# Altium integrated library Xilinx PLD XC9500XL.IntLib: 169 symbols (part 9 of 11)
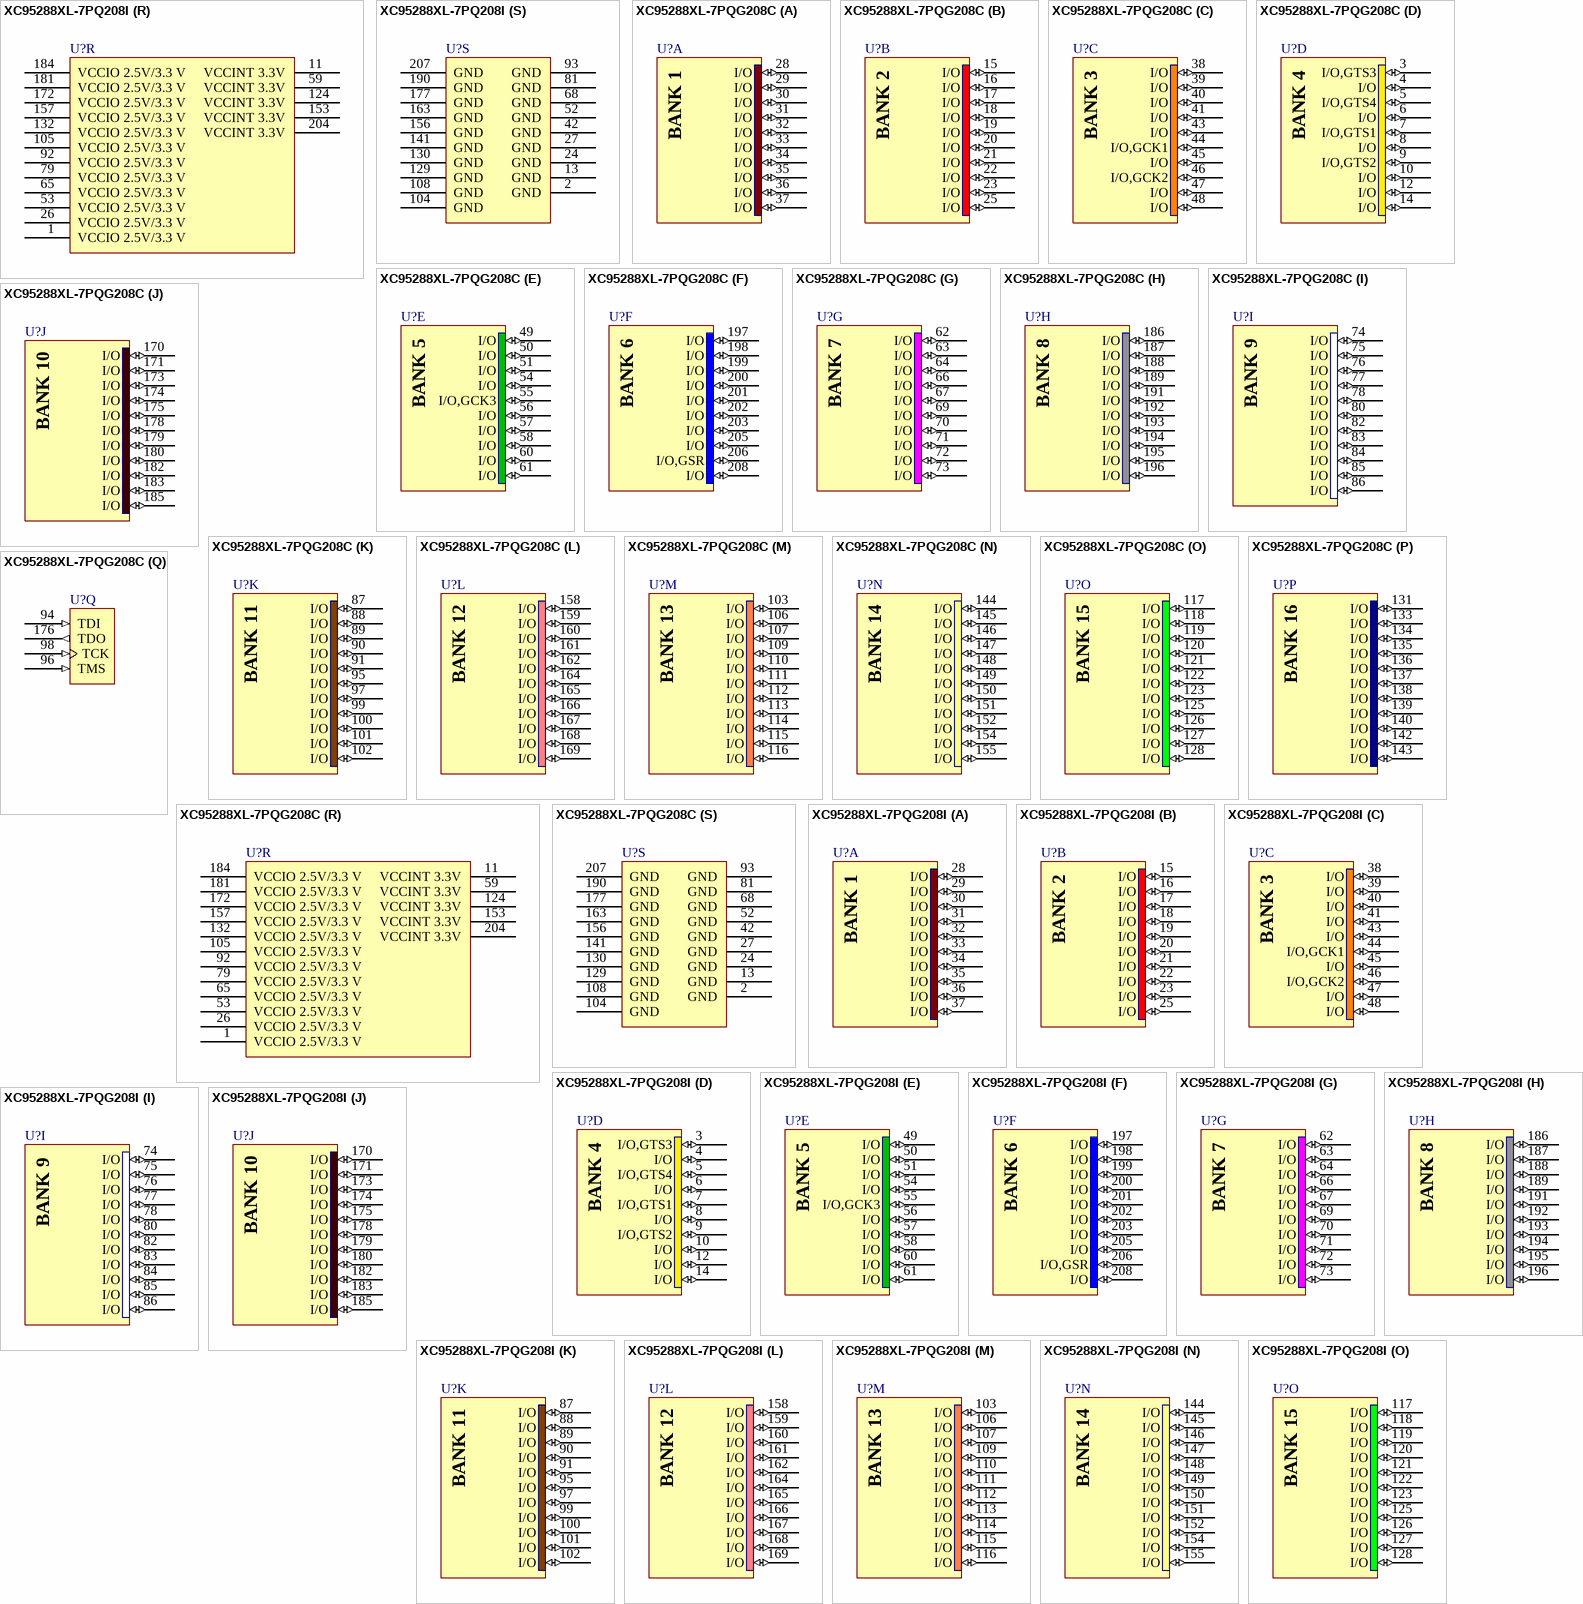
[diagram p66: symbols XC95288XL-7PQ208I to XC95288XL-7PQG208I]

## XC95288XL-7PQG208C
designator U?
FastFLASH XC900XL, 3.3V High-Performance 288 Macrocell CPLD, 168 User I/Os, 208-Pin PQFP, Speed Grade 7, Commercial Grade, Pb-Free; DatasheetVersion: ver2.1, Apr-2007; PackageVersion: ver1.2, Jun-2004; PackageReference: PQG208; PackageDescription: 208-Pin Plastic Quad Flat Pack (PQG208) - Pb-Free; Code_JEDEC: MS-029-FA-1; ComponentLink1Description: Manufacturer URL; ComponentLink1URL: http://www.xilinx.com/; ComponentLink2Description: XC95288XL Datasheet; ComponentLink2URL: http://www.xilinx.com/support/documentation/data_sheets/ds055.pdf; ComponentLink3Description: PQG208 Package Drawing; ComponentLink3URL: http://www.xilinx.com/support/documentation/package_specs/pq208.pdf; ComponentLink4Description: XC9500XL Documents; ComponentLink4URL: http://www.xilinx.com/support/documentation/xc9500xl.htm
footprint PQG208_N (Shrink QFP, 208-Leads, Body 28x28mm, Pitch 0.5mm, IPC Medium Density)
footprint PQG208_L (Shrink QFP, 208-Leads, Body 28x28mm, Pitch 0.5mm, IPC High Density)
footprint PQG208_M (Shrink QFP, 208-Leads, Body 28x28mm, Pitch 0.5mm, IPC Low Density)
part A pins: 28 I/O (io), 29 I/O (io), 30 I/O (io), 31 I/O (io), 32 I/O (io), 33 I/O (io), 34 I/O (io), 35 I/O (io), 36 I/O (io), 37 I/O (io)
part B pins: 15 I/O (io), 16 I/O (io), 17 I/O (io), 18 I/O (io), 19 I/O (io), 20 I/O (io), 21 I/O (io), 22 I/O (io), 23 I/O (io), 25 I/O (io)
part C pins: 38 I/O (io), 39 I/O (io), 40 I/O (io), 41 I/O (io), 43 I/O (io), 44 I/O,GCK1 (io), 45 I/O (io), 46 I/O,GCK2 (io), 47 I/O (io), 48 I/O (io)
part D pins: 3 I/O,GTS3 (io), 4 I/O (io), 5 I/O,GTS4 (io), 6 I/O (io), 7 I/O,GTS1 (io), 8 I/O (io), 9 I/O,GTS2 (io), 10 I/O (io), 12 I/O (io), 14 I/O (io)
part E pins: 49 I/O (io), 50 I/O (io), 51 I/O (io), 54 I/O (io), 55 I/O,GCK3 (io), 56 I/O (io), 57 I/O (io), 58 I/O (io), 60 I/O (io), 61 I/O (io)
part F pins: 197 I/O (io), 198 I/O (io), 199 I/O (io), 200 I/O (io), 201 I/O (io), 202 I/O (io), 203 I/O (io), 205 I/O (io), 206 I/O,GSR (io), 208 I/O (io)
part G pins: 62 I/O (io), 63 I/O (io), 64 I/O (io), 66 I/O (io), 67 I/O (io), 69 I/O (io), 70 I/O (io), 71 I/O (io), 72 I/O (io), 73 I/O (io)
part H pins: 186 I/O (io), 187 I/O (io), 188 I/O (io), 189 I/O (io), 191 I/O (io), 192 I/O (io), 193 I/O (io), 194 I/O (io), 195 I/O (io), 196 I/O (io)
part I pins: 74 I/O (io), 75 I/O (io), 76 I/O (io), 77 I/O (io), 78 I/O (io), 80 I/O (io), 82 I/O (io), 83 I/O (io), 84 I/O (io), 85 I/O (io), 86 I/O (io)
part J pins: 170 I/O (io), 171 I/O (io), 173 I/O (io), 174 I/O (io), 175 I/O (io), 178 I/O (io), 179 I/O (io), 180 I/O (io), 182 I/O (io), 183 I/O (io), 185 I/O (io)
part K pins: 87 I/O (io), 88 I/O (io), 89 I/O (io), 90 I/O (io), 91 I/O (io), 95 I/O (io), 97 I/O (io), 99 I/O (io), 100 I/O (io), 101 I/O (io), 102 I/O (io)
part L pins: 158 I/O (io), 159 I/O (io), 160 I/O (io), 161 I/O (io), 162 I/O (io), 164 I/O (io), 165 I/O (io), 166 I/O (io), 167 I/O (io), 168 I/O (io), 169 I/O (io)
part M pins: 103 I/O (io), 106 I/O (io), 107 I/O (io), 109 I/O (io), 110 I/O (io), 111 I/O (io), 112 I/O (io), 113 I/O (io), 114 I/O (io), 115 I/O (io), 116 I/O (io)
part N pins: 144 I/O (io), 145 I/O (io), 146 I/O (io), 147 I/O (io), 148 I/O (io), 149 I/O (io), 150 I/O (io), 151 I/O (io), 152 I/O (io), 154 I/O (io), 155 I/O (io)
part O pins: 117 I/O (io), 118 I/O (io), 119 I/O (io), 120 I/O (io), 121 I/O (io), 122 I/O (io), 123 I/O (io), 125 I/O (io), 126 I/O (io), 127 I/O (io), 128 I/O (io)
part P pins: 131 I/O (io), 133 I/O (io), 134 I/O (io), 135 I/O (io), 136 I/O (io), 137 I/O (io), 138 I/O (io), 139 I/O (io), 140 I/O (io), 142 I/O (io), 143 I/O (io)
part Q pins: 94 TDI (in), 96 TMS (in), 98 TCK (in), 176 TDO (out)
part R pins: 1 VCCIO 2.5V/3.3 V (power), 11 VCCINT 3.3V (power), 26 VCCIO 2.5V/3.3 V (power), 53 VCCIO 2.5V/3.3 V (power), 59 VCCINT 3.3V (power), 65 VCCIO 2.5V/3.3 V (power), 79 VCCIO 2.5V/3.3 V (power), 92 VCCIO 2.5V/3.3 V (power), 105 VCCIO 2.5V/3.3 V (power), 124 VCCINT 3.3V (power), 132 VCCIO 2.5V/3.3 V (power), 153 VCCINT 3.3V (power), 157 VCCIO 2.5V/3.3 V (power), 172 VCCIO 2.5V/3.3 V (power), 181 VCCIO 2.5V/3.3 V (power), 184 VCCIO 2.5V/3.3 V (power), 204 VCCINT 3.3V (power)
part S pins: 2 GND (power), 13 GND (power), 24 GND (power), 27 GND (power), 42 GND (power), 52 GND (power), 68 GND (power), 81 GND (power), 93 GND (power), 104 GND (power), 108 GND (power), 129 GND (power), 130 GND (power), 141 GND (power), 156 GND (power), 163 GND (power), 177 GND (power), 190 GND (power), 207 GND (power)
part A text: BANK 1
part B text: BANK 2
part C text: BANK 3
part D text: BANK 4
part E text: BANK 5
part F text: BANK 6
part G text: BANK 7
part H text: BANK 8
part I text: BANK 9
part J text: BANK 10
part K text: BANK 11
part L text: BANK 12
part M text: BANK 13
part N text: BANK 14
part O text: BANK 15
part P text: BANK 16

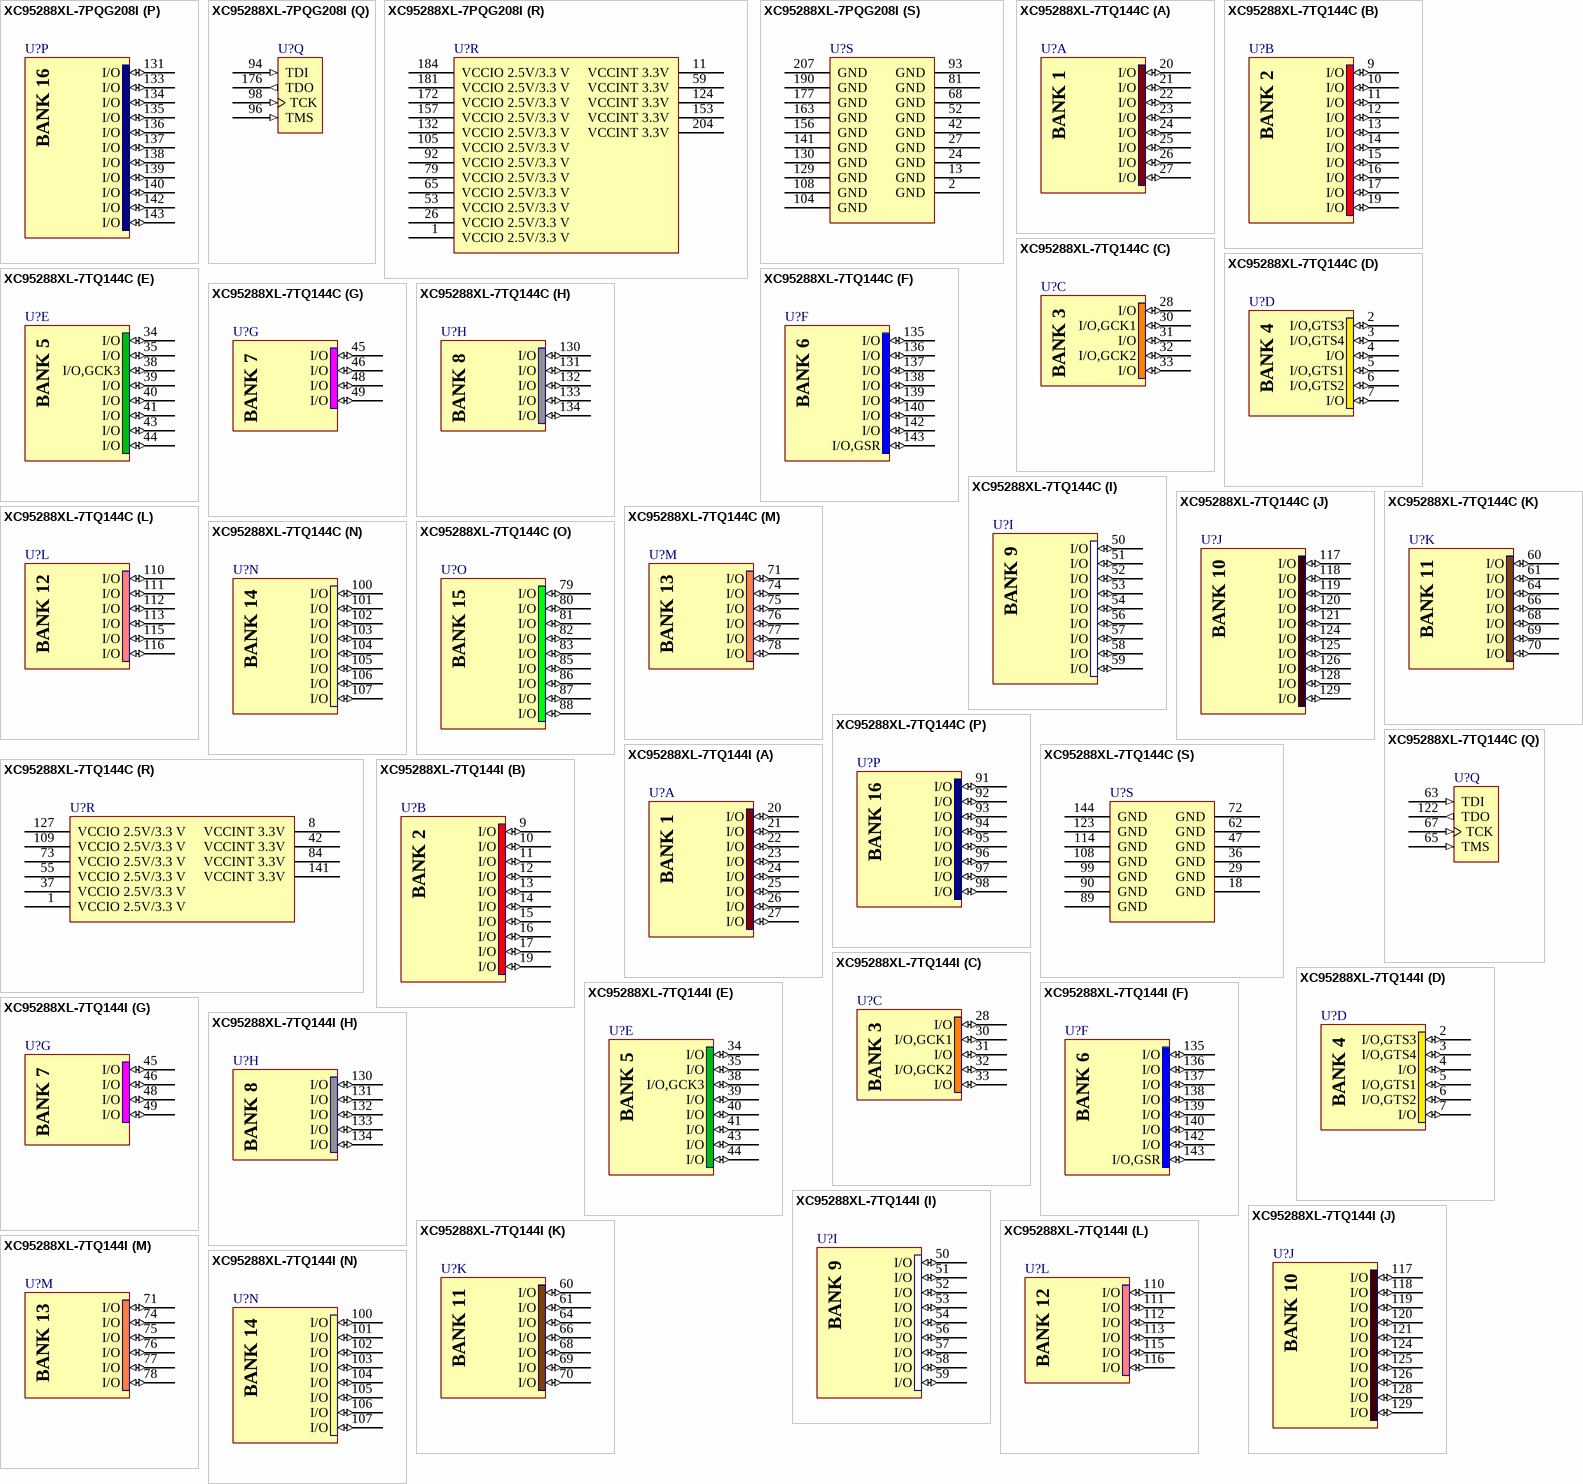
[diagram p45: symbols XC95288XL-7PQG208I to XC95288XL-7TQ144I]

## XC95288XL-7PQG208I
designator U?
FastFLASH XC900XL, 3.3V High-Performance 288 Macrocell CPLD, 168 User I/Os, 208-Pin PQFP, Speed Grade 7, Industrial Grade, Pb-Free; DatasheetVersion: ver2.1, Apr-2007; PackageVersion: ver1.2, Jun-2004; PackageReference: PQG208; PackageDescription: 208-Pin Plastic Quad Flat Pack (PQG208) - Pb-Free; Code_JEDEC: MS-029-FA-1; ComponentLink1Description: Manufacturer URL; ComponentLink1URL: http://www.xilinx.com/; ComponentLink2Description: XC95288XL Datasheet; ComponentLink2URL: http://www.xilinx.com/support/documentation/data_sheets/ds055.pdf; ComponentLink3Description: PQG208 Package Drawing; ComponentLink3URL: http://www.xilinx.com/support/documentation/package_specs/pq208.pdf; ComponentLink4Description: XC9500XL Documents; ComponentLink4URL: http://www.xilinx.com/support/documentation/xc9500xl.htm
footprint PQG208_N (Shrink QFP, 208-Leads, Body 28x28mm, Pitch 0.5mm, IPC Medium Density)
footprint PQG208_L (Shrink QFP, 208-Leads, Body 28x28mm, Pitch 0.5mm, IPC High Density)
footprint PQG208_M (Shrink QFP, 208-Leads, Body 28x28mm, Pitch 0.5mm, IPC Low Density)
part A pins: 28 I/O (io), 29 I/O (io), 30 I/O (io), 31 I/O (io), 32 I/O (io), 33 I/O (io), 34 I/O (io), 35 I/O (io), 36 I/O (io), 37 I/O (io)
part B pins: 15 I/O (io), 16 I/O (io), 17 I/O (io), 18 I/O (io), 19 I/O (io), 20 I/O (io), 21 I/O (io), 22 I/O (io), 23 I/O (io), 25 I/O (io)
part C pins: 38 I/O (io), 39 I/O (io), 40 I/O (io), 41 I/O (io), 43 I/O (io), 44 I/O,GCK1 (io), 45 I/O (io), 46 I/O,GCK2 (io), 47 I/O (io), 48 I/O (io)
part D pins: 3 I/O,GTS3 (io), 4 I/O (io), 5 I/O,GTS4 (io), 6 I/O (io), 7 I/O,GTS1 (io), 8 I/O (io), 9 I/O,GTS2 (io), 10 I/O (io), 12 I/O (io), 14 I/O (io)
part E pins: 49 I/O (io), 50 I/O (io), 51 I/O (io), 54 I/O (io), 55 I/O,GCK3 (io), 56 I/O (io), 57 I/O (io), 58 I/O (io), 60 I/O (io), 61 I/O (io)
part F pins: 197 I/O (io), 198 I/O (io), 199 I/O (io), 200 I/O (io), 201 I/O (io), 202 I/O (io), 203 I/O (io), 205 I/O (io), 206 I/O,GSR (io), 208 I/O (io)
part G pins: 62 I/O (io), 63 I/O (io), 64 I/O (io), 66 I/O (io), 67 I/O (io), 69 I/O (io), 70 I/O (io), 71 I/O (io), 72 I/O (io), 73 I/O (io)
part H pins: 186 I/O (io), 187 I/O (io), 188 I/O (io), 189 I/O (io), 191 I/O (io), 192 I/O (io), 193 I/O (io), 194 I/O (io), 195 I/O (io), 196 I/O (io)
part I pins: 74 I/O (io), 75 I/O (io), 76 I/O (io), 77 I/O (io), 78 I/O (io), 80 I/O (io), 82 I/O (io), 83 I/O (io), 84 I/O (io), 85 I/O (io), 86 I/O (io)
part J pins: 170 I/O (io), 171 I/O (io), 173 I/O (io), 174 I/O (io), 175 I/O (io), 178 I/O (io), 179 I/O (io), 180 I/O (io), 182 I/O (io), 183 I/O (io), 185 I/O (io)
part K pins: 87 I/O (io), 88 I/O (io), 89 I/O (io), 90 I/O (io), 91 I/O (io), 95 I/O (io), 97 I/O (io), 99 I/O (io), 100 I/O (io), 101 I/O (io), 102 I/O (io)
part L pins: 158 I/O (io), 159 I/O (io), 160 I/O (io), 161 I/O (io), 162 I/O (io), 164 I/O (io), 165 I/O (io), 166 I/O (io), 167 I/O (io), 168 I/O (io), 169 I/O (io)
part M pins: 103 I/O (io), 106 I/O (io), 107 I/O (io), 109 I/O (io), 110 I/O (io), 111 I/O (io), 112 I/O (io), 113 I/O (io), 114 I/O (io), 115 I/O (io), 116 I/O (io)
part N pins: 144 I/O (io), 145 I/O (io), 146 I/O (io), 147 I/O (io), 148 I/O (io), 149 I/O (io), 150 I/O (io), 151 I/O (io), 152 I/O (io), 154 I/O (io), 155 I/O (io)
part O pins: 117 I/O (io), 118 I/O (io), 119 I/O (io), 120 I/O (io), 121 I/O (io), 122 I/O (io), 123 I/O (io), 125 I/O (io), 126 I/O (io), 127 I/O (io), 128 I/O (io)
part P pins: 131 I/O (io), 133 I/O (io), 134 I/O (io), 135 I/O (io), 136 I/O (io), 137 I/O (io), 138 I/O (io), 139 I/O (io), 140 I/O (io), 142 I/O (io), 143 I/O (io)
part Q pins: 94 TDI (in), 96 TMS (in), 98 TCK (in), 176 TDO (out)
part R pins: 1 VCCIO 2.5V/3.3 V (power), 11 VCCINT 3.3V (power), 26 VCCIO 2.5V/3.3 V (power), 53 VCCIO 2.5V/3.3 V (power), 59 VCCINT 3.3V (power), 65 VCCIO 2.5V/3.3 V (power), 79 VCCIO 2.5V/3.3 V (power), 92 VCCIO 2.5V/3.3 V (power), 105 VCCIO 2.5V/3.3 V (power), 124 VCCINT 3.3V (power), 132 VCCIO 2.5V/3.3 V (power), 153 VCCINT 3.3V (power), 157 VCCIO 2.5V/3.3 V (power), 172 VCCIO 2.5V/3.3 V (power), 181 VCCIO 2.5V/3.3 V (power), 184 VCCIO 2.5V/3.3 V (power), 204 VCCINT 3.3V (power)
part S pins: 2 GND (power), 13 GND (power), 24 GND (power), 27 GND (power), 42 GND (power), 52 GND (power), 68 GND (power), 81 GND (power), 93 GND (power), 104 GND (power), 108 GND (power), 129 GND (power), 130 GND (power), 141 GND (power), 156 GND (power), 163 GND (power), 177 GND (power), 190 GND (power), 207 GND (power)
part A text: BANK 1
part B text: BANK 2
part C text: BANK 3
part D text: BANK 4
part E text: BANK 5
part F text: BANK 6
part G text: BANK 7
part H text: BANK 8
part I text: BANK 9
part J text: BANK 10
part K text: BANK 11
part L text: BANK 12
part M text: BANK 13
part N text: BANK 14
part O text: BANK 15
part P text: BANK 16

## XC95288XL-7TQ144C
designator U?
FastFLASH XC900XL, 3.3V High-Performance 288 Macrocell CPLD, 117 User I/Os, 144-Pin TQFP, Speed Grade 7, Commercial Grade; DatasheetVersion: ver2.1, Apr-2007; PackageVersion: ver1.2, Jun-2004; PackageReference: TQ144; PackageDescription: 144-Pin Thin Quad Flat Pack (TQ144); Code_JEDEC: MS-026-BFB; ComponentLink1Description: Manufacturer URL; ComponentLink1URL: http://www.xilinx.com/; ComponentLink2Description: XC95288XL Datasheet; ComponentLink2URL: http://www.xilinx.com/support/documentation/data_sheets/ds055.pdf; ComponentLink3Description: TQ144 Package Drawing; ComponentLink3URL: http://www.xilinx.com/support/documentation/package_specs/tq144.pdf; ComponentLink4Description: XC9500XL Documents; ComponentLink4URL: http://www.xilinx.com/support/documentation/xc9500xl.htm
footprint TQ144_N (Thin QFP, 144-Leads, Body 20x20mm, Pitch 0.5mm, IPC Medium Density)
footprint TQ144_L (Thin QFP, 144-Leads, Body 20x20mm, Pitch 0.5mm, IPC High Density)
footprint TQ144_M (Thin QFP, 144-Leads, Body 20x20mm, Pitch 0.5mm, IPC Low Density)
part A pins: 20 I/O (io), 21 I/O (io), 22 I/O (io), 23 I/O (io), 24 I/O (io), 25 I/O (io), 26 I/O (io), 27 I/O (io)
part B pins: 9 I/O (io), 10 I/O (io), 11 I/O (io), 12 I/O (io), 13 I/O (io), 14 I/O (io), 15 I/O (io), 16 I/O (io), 17 I/O (io), 19 I/O (io)
part C pins: 28 I/O (io), 30 I/O,GCK1 (io), 31 I/O (io), 32 I/O,GCK2 (io), 33 I/O (io)
part D pins: 2 I/O,GTS3 (io), 3 I/O,GTS4 (io), 4 I/O (io), 5 I/O,GTS1 (io), 6 I/O,GTS2 (io), 7 I/O (io)
part E pins: 34 I/O (io), 35 I/O (io), 38 I/O,GCK3 (io), 39 I/O (io), 40 I/O (io), 41 I/O (io), 43 I/O (io), 44 I/O (io)
part F pins: 135 I/O (io), 136 I/O (io), 137 I/O (io), 138 I/O (io), 139 I/O (io), 140 I/O (io), 142 I/O (io), 143 I/O,GSR (io)
part G pins: 45 I/O (io), 46 I/O (io), 48 I/O (io), 49 I/O (io)
part H pins: 130 I/O (io), 131 I/O (io), 132 I/O (io), 133 I/O (io), 134 I/O (io)
part I pins: 50 I/O (io), 51 I/O (io), 52 I/O (io), 53 I/O (io), 54 I/O (io), 56 I/O (io), 57 I/O (io), 58 I/O (io), 59 I/O (io)
part J pins: 117 I/O (io), 118 I/O (io), 119 I/O (io), 120 I/O (io), 121 I/O (io), 124 I/O (io), 125 I/O (io), 126 I/O (io), 128 I/O (io), 129 I/O (io)
part K pins: 60 I/O (io), 61 I/O (io), 64 I/O (io), 66 I/O (io), 68 I/O (io), 69 I/O (io), 70 I/O (io)
part L pins: 110 I/O (io), 111 I/O (io), 112 I/O (io), 113 I/O (io), 115 I/O (io), 116 I/O (io)
part M pins: 71 I/O (io), 74 I/O (io), 75 I/O (io), 76 I/O (io), 77 I/O (io), 78 I/O (io)
part N pins: 100 I/O (io), 101 I/O (io), 102 I/O (io), 103 I/O (io), 104 I/O (io), 105 I/O (io), 106 I/O (io), 107 I/O (io)
part O pins: 79 I/O (io), 80 I/O (io), 81 I/O (io), 82 I/O (io), 83 I/O (io), 85 I/O (io), 86 I/O (io), 87 I/O (io), 88 I/O (io)
part P pins: 91 I/O (io), 92 I/O (io), 93 I/O (io), 94 I/O (io), 95 I/O (io), 96 I/O (io), 97 I/O (io), 98 I/O (io)
part Q pins: 63 TDI (in), 65 TMS (in), 67 TCK (in), 122 TDO (out)
part R pins: 1 VCCIO 2.5V/3.3 V (power), 8 VCCINT 3.3V (power), 37 VCCIO 2.5V/3.3 V (power), 42 VCCINT 3.3V (power), 55 VCCIO 2.5V/3.3 V (power), 73 VCCIO 2.5V/3.3 V (power), 84 VCCINT 3.3V (power), 109 VCCIO 2.5V/3.3 V (power), 127 VCCIO 2.5V/3.3 V (power), 141 VCCINT 3.3V (power)
part S pins: 18 GND (power), 29 GND (power), 36 GND (power), 47 GND (power), 62 GND (power), 72 GND (power), 89 GND (power), 90 GND (power), 99 GND (power), 108 GND (power), 114 GND (power), 123 GND (power), 144 GND (power)
part A text: BANK 1
part B text: BANK 2
part C text: BANK 3
part D text: BANK 4
part E text: BANK 5
part F text: BANK 6
part G text: BANK 7
part H text: BANK 8
part I text: BANK 9
part J text: BANK 10
part K text: BANK 11
part L text: BANK 12
part M text: BANK 13
part N text: BANK 14
part O text: BANK 15
part P text: BANK 16

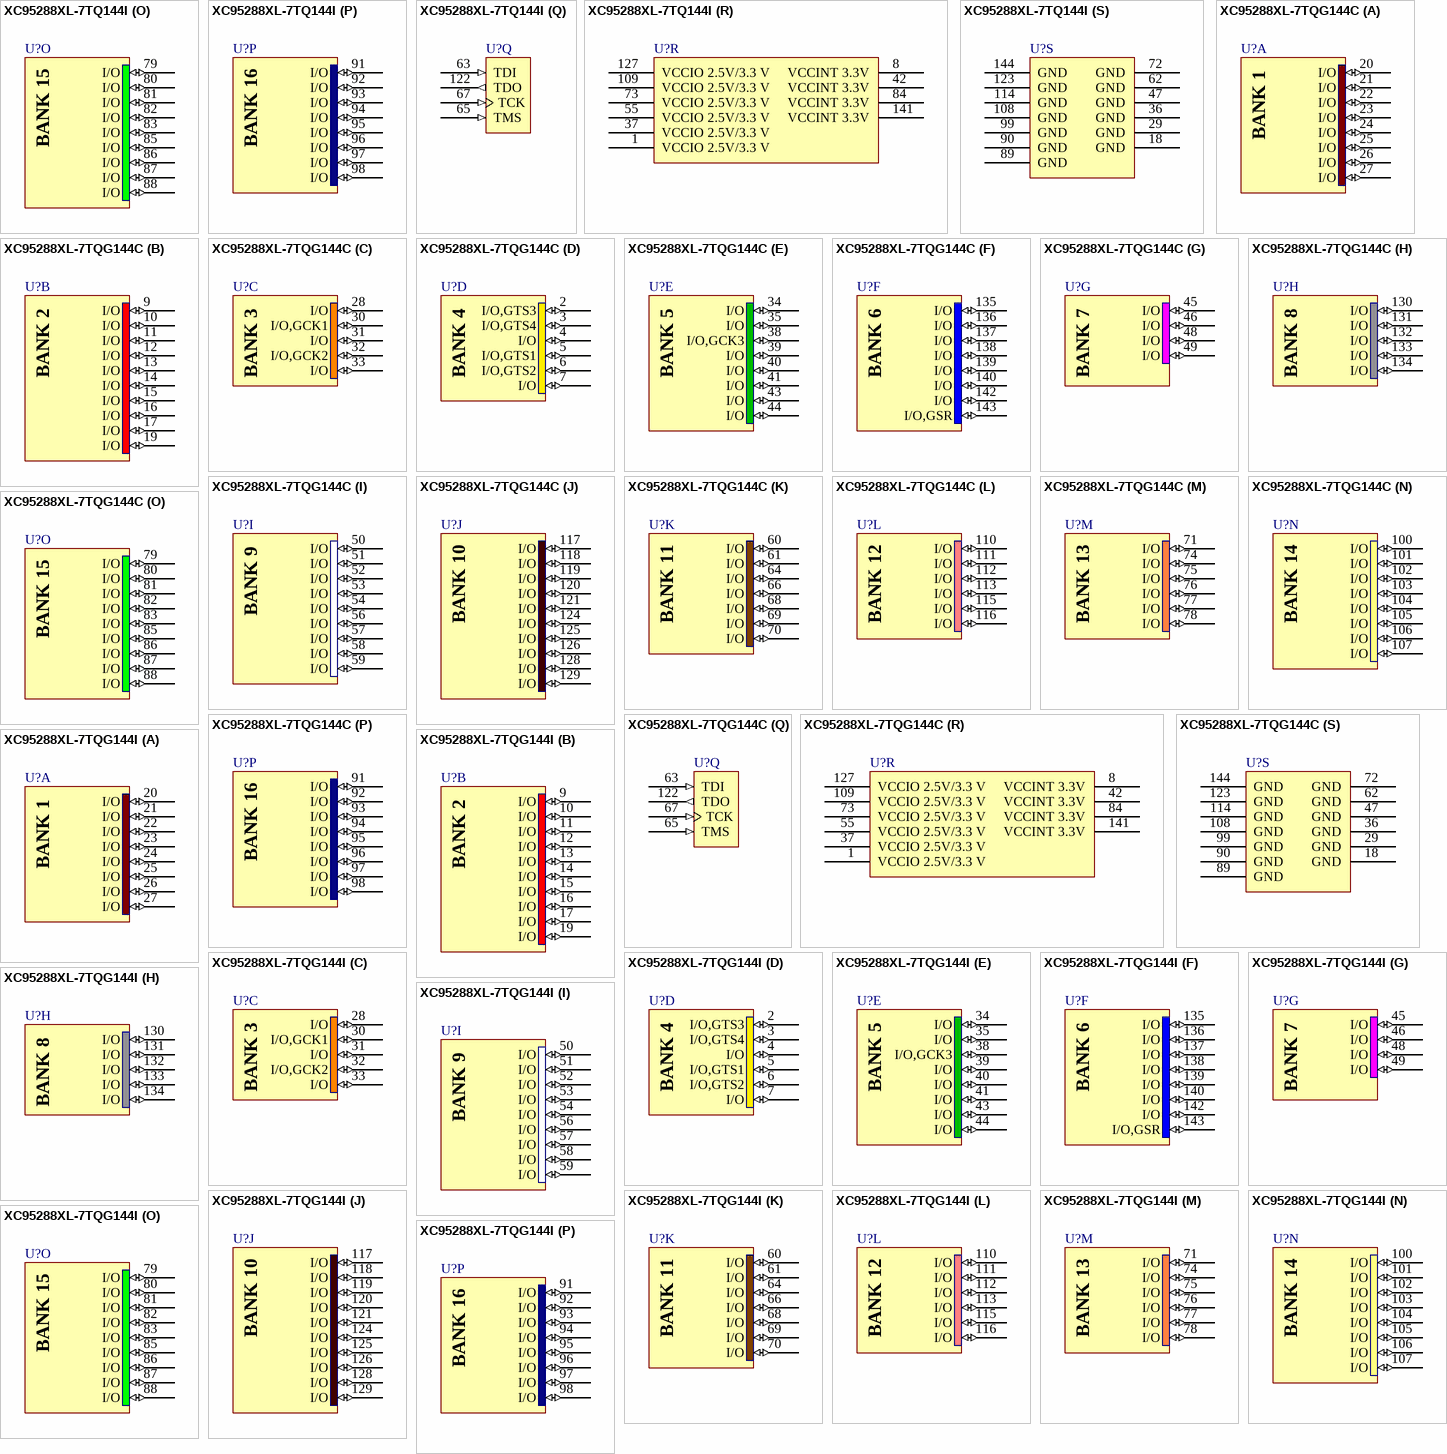
[diagram p46: symbols XC95288XL-7TQ144I to XC95288XL-7TQG144I]

## XC95288XL-7TQ144I
designator U?
FastFLASH XC900XL, 3.3V High-Performance 288 Macrocell CPLD, 117 User I/Os, 144-Pin TQFP, Speed Grade 7, Industrial Grade; DatasheetVersion: ver2.1, Apr-2007; PackageVersion: ver1.2, Jun-2004; PackageReference: TQ144; PackageDescription: 144-Pin Thin Quad Flat Pack (TQ144); Code_JEDEC: MS-026-BFB; ComponentLink1Description: Manufacturer URL; ComponentLink1URL: http://www.xilinx.com/; ComponentLink2Description: XC95288XL Datasheet; ComponentLink2URL: http://www.xilinx.com/support/documentation/data_sheets/ds055.pdf; ComponentLink3Description: TQ144 Package Drawing; ComponentLink3URL: http://www.xilinx.com/support/documentation/package_specs/tq144.pdf; ComponentLink4Description: XC9500XL Documents; ComponentLink4URL: http://www.xilinx.com/support/documentation/xc9500xl.htm
footprint TQ144_N (Thin QFP, 144-Leads, Body 20x20mm, Pitch 0.5mm, IPC Medium Density)
footprint TQ144_L (Thin QFP, 144-Leads, Body 20x20mm, Pitch 0.5mm, IPC High Density)
footprint TQ144_M (Thin QFP, 144-Leads, Body 20x20mm, Pitch 0.5mm, IPC Low Density)
part A pins: 20 I/O (io), 21 I/O (io), 22 I/O (io), 23 I/O (io), 24 I/O (io), 25 I/O (io), 26 I/O (io), 27 I/O (io)
part B pins: 9 I/O (io), 10 I/O (io), 11 I/O (io), 12 I/O (io), 13 I/O (io), 14 I/O (io), 15 I/O (io), 16 I/O (io), 17 I/O (io), 19 I/O (io)
part C pins: 28 I/O (io), 30 I/O,GCK1 (io), 31 I/O (io), 32 I/O,GCK2 (io), 33 I/O (io)
part D pins: 2 I/O,GTS3 (io), 3 I/O,GTS4 (io), 4 I/O (io), 5 I/O,GTS1 (io), 6 I/O,GTS2 (io), 7 I/O (io)
part E pins: 34 I/O (io), 35 I/O (io), 38 I/O,GCK3 (io), 39 I/O (io), 40 I/O (io), 41 I/O (io), 43 I/O (io), 44 I/O (io)
part F pins: 135 I/O (io), 136 I/O (io), 137 I/O (io), 138 I/O (io), 139 I/O (io), 140 I/O (io), 142 I/O (io), 143 I/O,GSR (io)
part G pins: 45 I/O (io), 46 I/O (io), 48 I/O (io), 49 I/O (io)
part H pins: 130 I/O (io), 131 I/O (io), 132 I/O (io), 133 I/O (io), 134 I/O (io)
part I pins: 50 I/O (io), 51 I/O (io), 52 I/O (io), 53 I/O (io), 54 I/O (io), 56 I/O (io), 57 I/O (io), 58 I/O (io), 59 I/O (io)
part J pins: 117 I/O (io), 118 I/O (io), 119 I/O (io), 120 I/O (io), 121 I/O (io), 124 I/O (io), 125 I/O (io), 126 I/O (io), 128 I/O (io), 129 I/O (io)
part K pins: 60 I/O (io), 61 I/O (io), 64 I/O (io), 66 I/O (io), 68 I/O (io), 69 I/O (io), 70 I/O (io)
part L pins: 110 I/O (io), 111 I/O (io), 112 I/O (io), 113 I/O (io), 115 I/O (io), 116 I/O (io)
part M pins: 71 I/O (io), 74 I/O (io), 75 I/O (io), 76 I/O (io), 77 I/O (io), 78 I/O (io)
part N pins: 100 I/O (io), 101 I/O (io), 102 I/O (io), 103 I/O (io), 104 I/O (io), 105 I/O (io), 106 I/O (io), 107 I/O (io)
part O pins: 79 I/O (io), 80 I/O (io), 81 I/O (io), 82 I/O (io), 83 I/O (io), 85 I/O (io), 86 I/O (io), 87 I/O (io), 88 I/O (io)
part P pins: 91 I/O (io), 92 I/O (io), 93 I/O (io), 94 I/O (io), 95 I/O (io), 96 I/O (io), 97 I/O (io), 98 I/O (io)
part Q pins: 63 TDI (in), 65 TMS (in), 67 TCK (in), 122 TDO (out)
part R pins: 1 VCCIO 2.5V/3.3 V (power), 8 VCCINT 3.3V (power), 37 VCCIO 2.5V/3.3 V (power), 42 VCCINT 3.3V (power), 55 VCCIO 2.5V/3.3 V (power), 73 VCCIO 2.5V/3.3 V (power), 84 VCCINT 3.3V (power), 109 VCCIO 2.5V/3.3 V (power), 127 VCCIO 2.5V/3.3 V (power), 141 VCCINT 3.3V (power)
part S pins: 18 GND (power), 29 GND (power), 36 GND (power), 47 GND (power), 62 GND (power), 72 GND (power), 89 GND (power), 90 GND (power), 99 GND (power), 108 GND (power), 114 GND (power), 123 GND (power), 144 GND (power)
part A text: BANK 1
part B text: BANK 2
part C text: BANK 3
part D text: BANK 4
part E text: BANK 5
part F text: BANK 6
part G text: BANK 7
part H text: BANK 8
part I text: BANK 9
part J text: BANK 10
part K text: BANK 11
part L text: BANK 12
part M text: BANK 13
part N text: BANK 14
part O text: BANK 15
part P text: BANK 16

## XC95288XL-7TQG144C
designator U?
FastFLASH XC900XL, 3.3V High-Performance 288 Macrocell CPLD, 117 User I/Os, 144-Pin TQFP, Speed Grade 7, Commercial Grade, Pb-Free; DatasheetVersion: ver2.1, Apr-2007; PackageVersion: ver1.2, Jun-2004; PackageReference: TQG144; PackageDescription: 144-Pin Thin Quad Flat Pack (TQG144) - Pb-Free; Code_JEDEC: MS-026-BFB; ComponentLink1Description: Manufacturer URL; ComponentLink1URL: http://www.xilinx.com/; ComponentLink2Description: XC95288XL Datasheet; ComponentLink2URL: http://www.xilinx.com/support/documentation/data_sheets/ds055.pdf; ComponentLink3Description: TQG144 Package Drawing; ComponentLink3URL: http://www.xilinx.com/support/documentation/package_specs/tq144.pdf; ComponentLink4Description: XC9500XL Documents; ComponentLink4URL: http://www.xilinx.com/support/documentation/xc9500xl.htm
footprint TQG144_N (Thin QFP, 144-Leads, Body 20x20mm, Pitch 0.5mm, IPC Medium Density)
footprint TQG144_L (Thin QFP, 144-Leads, Body 20x20mm, Pitch 0.5mm, IPC High Density)
footprint TQG144_M (Thin QFP, 144-Leads, Body 20x20mm, Pitch 0.5mm, IPC Low Density)
part A pins: 20 I/O (io), 21 I/O (io), 22 I/O (io), 23 I/O (io), 24 I/O (io), 25 I/O (io), 26 I/O (io), 27 I/O (io)
part B pins: 9 I/O (io), 10 I/O (io), 11 I/O (io), 12 I/O (io), 13 I/O (io), 14 I/O (io), 15 I/O (io), 16 I/O (io), 17 I/O (io), 19 I/O (io)
part C pins: 28 I/O (io), 30 I/O,GCK1 (io), 31 I/O (io), 32 I/O,GCK2 (io), 33 I/O (io)
part D pins: 2 I/O,GTS3 (io), 3 I/O,GTS4 (io), 4 I/O (io), 5 I/O,GTS1 (io), 6 I/O,GTS2 (io), 7 I/O (io)
part E pins: 34 I/O (io), 35 I/O (io), 38 I/O,GCK3 (io), 39 I/O (io), 40 I/O (io), 41 I/O (io), 43 I/O (io), 44 I/O (io)
part F pins: 135 I/O (io), 136 I/O (io), 137 I/O (io), 138 I/O (io), 139 I/O (io), 140 I/O (io), 142 I/O (io), 143 I/O,GSR (io)
part G pins: 45 I/O (io), 46 I/O (io), 48 I/O (io), 49 I/O (io)
part H pins: 130 I/O (io), 131 I/O (io), 132 I/O (io), 133 I/O (io), 134 I/O (io)
part I pins: 50 I/O (io), 51 I/O (io), 52 I/O (io), 53 I/O (io), 54 I/O (io), 56 I/O (io), 57 I/O (io), 58 I/O (io), 59 I/O (io)
part J pins: 117 I/O (io), 118 I/O (io), 119 I/O (io), 120 I/O (io), 121 I/O (io), 124 I/O (io), 125 I/O (io), 126 I/O (io), 128 I/O (io), 129 I/O (io)
part K pins: 60 I/O (io), 61 I/O (io), 64 I/O (io), 66 I/O (io), 68 I/O (io), 69 I/O (io), 70 I/O (io)
part L pins: 110 I/O (io), 111 I/O (io), 112 I/O (io), 113 I/O (io), 115 I/O (io), 116 I/O (io)
part M pins: 71 I/O (io), 74 I/O (io), 75 I/O (io), 76 I/O (io), 77 I/O (io), 78 I/O (io)
part N pins: 100 I/O (io), 101 I/O (io), 102 I/O (io), 103 I/O (io), 104 I/O (io), 105 I/O (io), 106 I/O (io), 107 I/O (io)
part O pins: 79 I/O (io), 80 I/O (io), 81 I/O (io), 82 I/O (io), 83 I/O (io), 85 I/O (io), 86 I/O (io), 87 I/O (io), 88 I/O (io)
part P pins: 91 I/O (io), 92 I/O (io), 93 I/O (io), 94 I/O (io), 95 I/O (io), 96 I/O (io), 97 I/O (io), 98 I/O (io)
part Q pins: 63 TDI (in), 65 TMS (in), 67 TCK (in), 122 TDO (out)
part R pins: 1 VCCIO 2.5V/3.3 V (power), 8 VCCINT 3.3V (power), 37 VCCIO 2.5V/3.3 V (power), 42 VCCINT 3.3V (power), 55 VCCIO 2.5V/3.3 V (power), 73 VCCIO 2.5V/3.3 V (power), 84 VCCINT 3.3V (power), 109 VCCIO 2.5V/3.3 V (power), 127 VCCIO 2.5V/3.3 V (power), 141 VCCINT 3.3V (power)
part S pins: 18 GND (power), 29 GND (power), 36 GND (power), 47 GND (power), 62 GND (power), 72 GND (power), 89 GND (power), 90 GND (power), 99 GND (power), 108 GND (power), 114 GND (power), 123 GND (power), 144 GND (power)
part A text: BANK 1
part B text: BANK 2
part C text: BANK 3
part D text: BANK 4
part E text: BANK 5
part F text: BANK 6
part G text: BANK 7
part H text: BANK 8
part I text: BANK 9
part J text: BANK 10
part K text: BANK 11
part L text: BANK 12
part M text: BANK 13
part N text: BANK 14
part O text: BANK 15
part P text: BANK 16

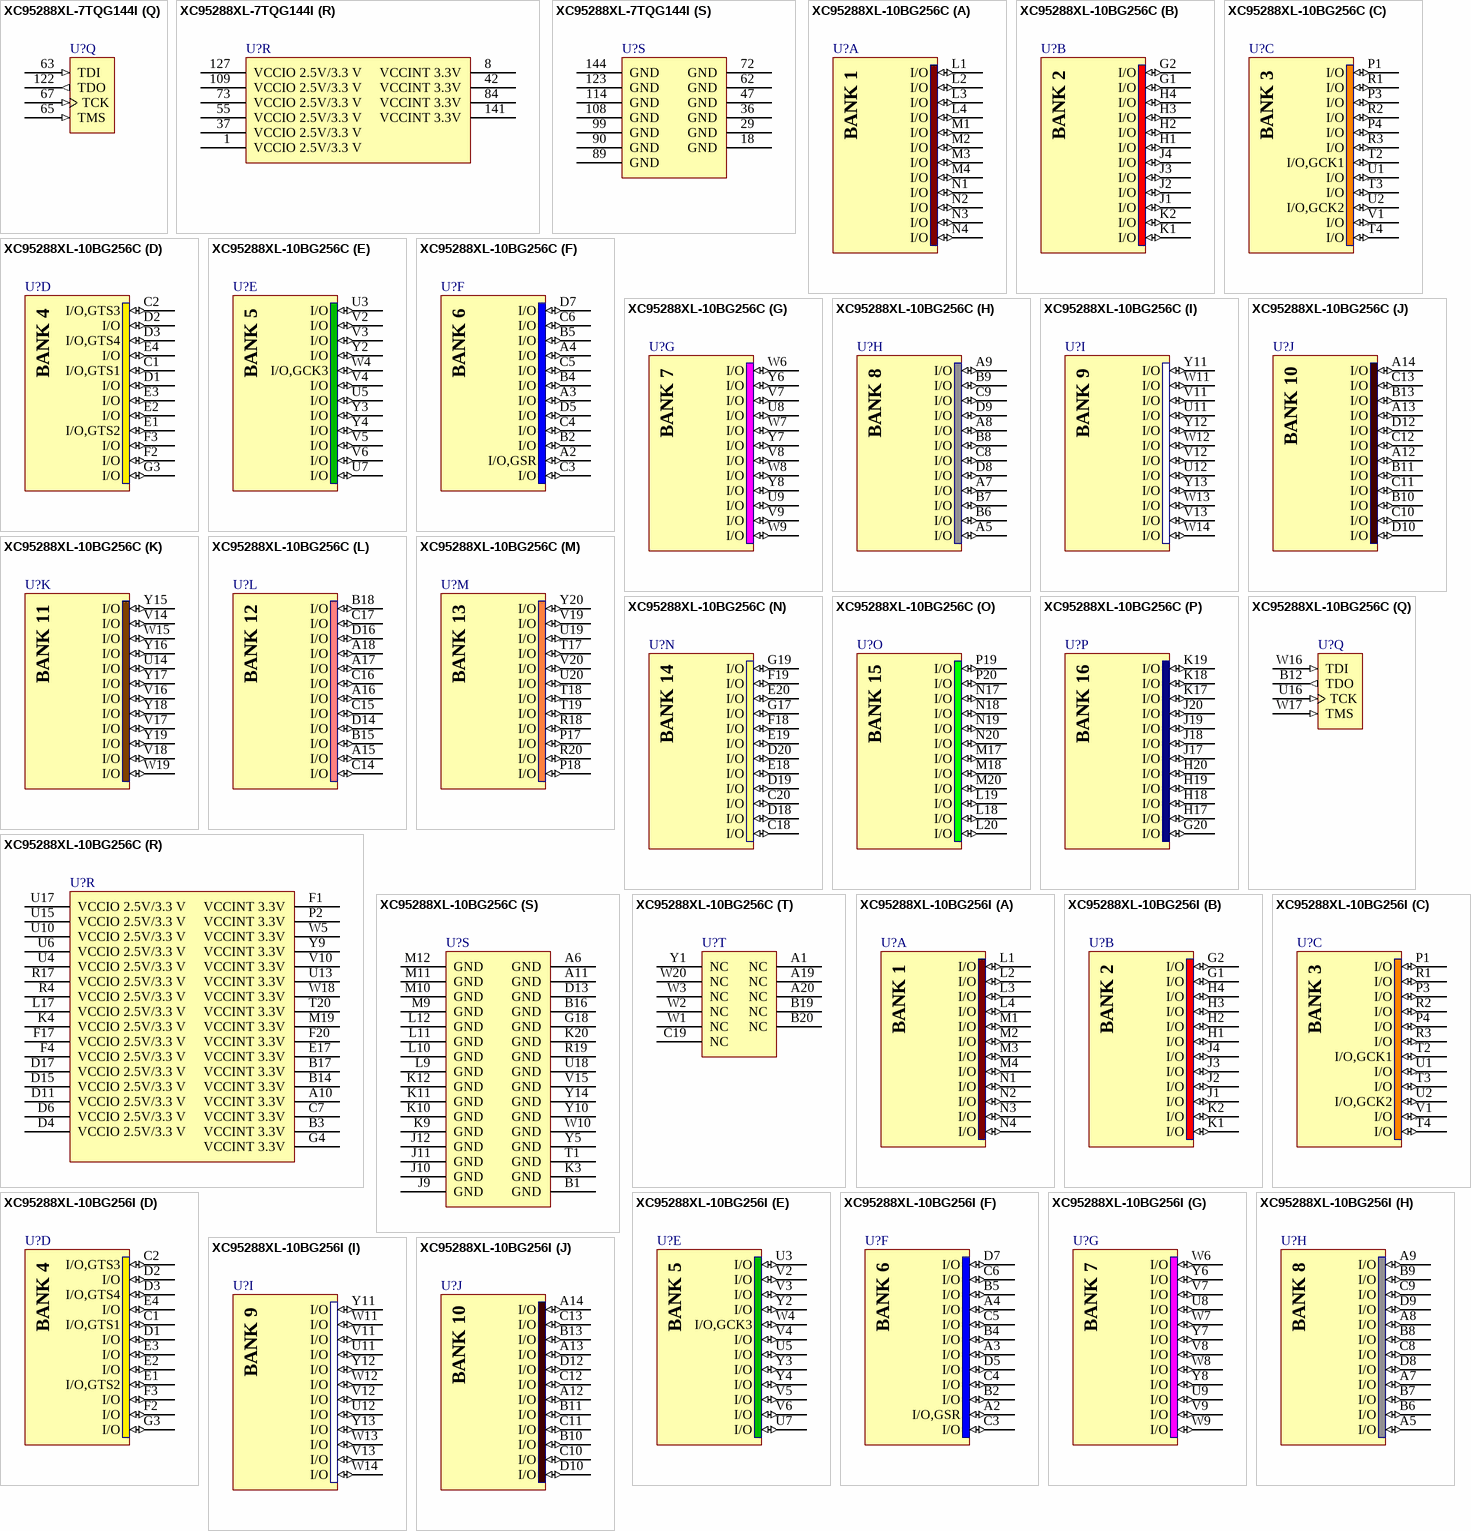
[diagram p47: symbols XC95288XL-7TQG144I to XC95288XL-10BG256I]

## XC95288XL-7TQG144I
designator U?
FastFLASH XC900XL, 3.3V High-Performance 288 Macrocell CPLD, 117 User I/Os, 144-Pin TQFP, Speed Grade 7, Industrial Grade, Pb-Free; DatasheetVersion: ver2.1, Apr-2007; PackageVersion: ver1.2, Jun-2004; PackageReference: TQG144; PackageDescription: 144-Pin Thin Quad Flat Pack (TQG144) - Pb-Free; Code_JEDEC: MS-026-BFB; ComponentLink1Description: Manufacturer URL; ComponentLink1URL: http://www.xilinx.com/; ComponentLink2Description: XC95288XL Datasheet; ComponentLink2URL: http://www.xilinx.com/support/documentation/data_sheets/ds055.pdf; ComponentLink3Description: TQG144 Package Drawing; ComponentLink3URL: http://www.xilinx.com/support/documentation/package_specs/tq144.pdf; ComponentLink4Description: XC9500XL Documents; ComponentLink4URL: http://www.xilinx.com/support/documentation/xc9500xl.htm
footprint TQG144_N (Thin QFP, 144-Leads, Body 20x20mm, Pitch 0.5mm, IPC Medium Density)
footprint TQG144_L (Thin QFP, 144-Leads, Body 20x20mm, Pitch 0.5mm, IPC High Density)
footprint TQG144_M (Thin QFP, 144-Leads, Body 20x20mm, Pitch 0.5mm, IPC Low Density)
part A pins: 20 I/O (io), 21 I/O (io), 22 I/O (io), 23 I/O (io), 24 I/O (io), 25 I/O (io), 26 I/O (io), 27 I/O (io)
part B pins: 9 I/O (io), 10 I/O (io), 11 I/O (io), 12 I/O (io), 13 I/O (io), 14 I/O (io), 15 I/O (io), 16 I/O (io), 17 I/O (io), 19 I/O (io)
part C pins: 28 I/O (io), 30 I/O,GCK1 (io), 31 I/O (io), 32 I/O,GCK2 (io), 33 I/O (io)
part D pins: 2 I/O,GTS3 (io), 3 I/O,GTS4 (io), 4 I/O (io), 5 I/O,GTS1 (io), 6 I/O,GTS2 (io), 7 I/O (io)
part E pins: 34 I/O (io), 35 I/O (io), 38 I/O,GCK3 (io), 39 I/O (io), 40 I/O (io), 41 I/O (io), 43 I/O (io), 44 I/O (io)
part F pins: 135 I/O (io), 136 I/O (io), 137 I/O (io), 138 I/O (io), 139 I/O (io), 140 I/O (io), 142 I/O (io), 143 I/O,GSR (io)
part G pins: 45 I/O (io), 46 I/O (io), 48 I/O (io), 49 I/O (io)
part H pins: 130 I/O (io), 131 I/O (io), 132 I/O (io), 133 I/O (io), 134 I/O (io)
part I pins: 50 I/O (io), 51 I/O (io), 52 I/O (io), 53 I/O (io), 54 I/O (io), 56 I/O (io), 57 I/O (io), 58 I/O (io), 59 I/O (io)
part J pins: 117 I/O (io), 118 I/O (io), 119 I/O (io), 120 I/O (io), 121 I/O (io), 124 I/O (io), 125 I/O (io), 126 I/O (io), 128 I/O (io), 129 I/O (io)
part K pins: 60 I/O (io), 61 I/O (io), 64 I/O (io), 66 I/O (io), 68 I/O (io), 69 I/O (io), 70 I/O (io)
part L pins: 110 I/O (io), 111 I/O (io), 112 I/O (io), 113 I/O (io), 115 I/O (io), 116 I/O (io)
part M pins: 71 I/O (io), 74 I/O (io), 75 I/O (io), 76 I/O (io), 77 I/O (io), 78 I/O (io)
part N pins: 100 I/O (io), 101 I/O (io), 102 I/O (io), 103 I/O (io), 104 I/O (io), 105 I/O (io), 106 I/O (io), 107 I/O (io)
part O pins: 79 I/O (io), 80 I/O (io), 81 I/O (io), 82 I/O (io), 83 I/O (io), 85 I/O (io), 86 I/O (io), 87 I/O (io), 88 I/O (io)
part P pins: 91 I/O (io), 92 I/O (io), 93 I/O (io), 94 I/O (io), 95 I/O (io), 96 I/O (io), 97 I/O (io), 98 I/O (io)
part Q pins: 63 TDI (in), 65 TMS (in), 67 TCK (in), 122 TDO (out)
part R pins: 1 VCCIO 2.5V/3.3 V (power), 8 VCCINT 3.3V (power), 37 VCCIO 2.5V/3.3 V (power), 42 VCCINT 3.3V (power), 55 VCCIO 2.5V/3.3 V (power), 73 VCCIO 2.5V/3.3 V (power), 84 VCCINT 3.3V (power), 109 VCCIO 2.5V/3.3 V (power), 127 VCCIO 2.5V/3.3 V (power), 141 VCCINT 3.3V (power)
part S pins: 18 GND (power), 29 GND (power), 36 GND (power), 47 GND (power), 62 GND (power), 72 GND (power), 89 GND (power), 90 GND (power), 99 GND (power), 108 GND (power), 114 GND (power), 123 GND (power), 144 GND (power)
part A text: BANK 1
part B text: BANK 2
part C text: BANK 3
part D text: BANK 4
part E text: BANK 5
part F text: BANK 6
part G text: BANK 7
part H text: BANK 8
part I text: BANK 9
part J text: BANK 10
part K text: BANK 11
part L text: BANK 12
part M text: BANK 13
part N text: BANK 14
part O text: BANK 15
part P text: BANK 16

## XC95288XL-10BG256C
designator U?
FastFLASH XC900XL, 3.3V High-Performance 288 Macrocell CPLD, 192 User I/Os, 256-Ball BGA, Speed Grade 10, Commercial Grade; Note: BGA package contains 16 extra balls (Grounded); DatasheetVersion: ver2.1, Apr-2007; PackageVersion: ver1.2, Apr-2006; PackageReference: BG256TE; PackageDescription: 256-Ball Plastic Ball Grid Array (BG256) - Thermally Enhanced; Code_JEDEC: MS-034-BAL-2; ComponentLink1Description: Manufacturer URL; ComponentLink1URL: http://www.xilinx.com/; ComponentLink2Description: XC95288XL Datasheet; ComponentLink2URL: http://www.xilinx.com/support/documentation/data_sheets/ds055.pdf; ComponentLink3Description: BG256TE Package Drawing; ComponentLink3URL: http://www.xilinx.com/support/documentation/package_specs/bg256.pdf; ComponentLink4Description: XC9500XL Documents; ComponentLink4URL: http://www.xilinx.com/support/documentation/xc9500xl.htm
footprint BG256TE (BGA, 272-Leads, Body 27x27mm, Pitch 1.27mm)
part A pins: L1 I/O (io), L2 I/O (io), L3 I/O (io), L4 I/O (io), M1 I/O (io), M2 I/O (io), M3 I/O (io), M4 I/O (io), N1 I/O (io), N2 I/O (io), N3 I/O (io), N4 I/O (io)
part B pins: G1 I/O (io), G2 I/O (io), H1 I/O (io), H2 I/O (io), H3 I/O (io), H4 I/O (io), J1 I/O (io), J2 I/O (io), J3 I/O (io), J4 I/O (io), K1 I/O (io), K2 I/O (io)
part C pins: P1 I/O (io), P3 I/O (io), P4 I/O (io), R1 I/O (io), R2 I/O (io), R3 I/O (io), T2 I/O,GCK1 (io), T3 I/O (io), T4 I/O (io), U1 I/O (io), U2 I/O,GCK2 (io), V1 I/O (io)
part D pins: C1 I/O,GTS1 (io), C2 I/O,GTS3 (io), D1 I/O (io), D2 I/O (io), D3 I/O,GTS4 (io), E1 I/O,GTS2 (io), E2 I/O (io), E3 I/O (io), E4 I/O (io), F2 I/O (io), F3 I/O (io), G3 I/O (io)
part E pins: U3 I/O (io), U5 I/O (io), U7 I/O (io), V2 I/O (io), V3 I/O (io), V4 I/O (io), V5 I/O (io), V6 I/O (io), W4 I/O,GCK3 (io), Y2 I/O (io), Y3 I/O (io), Y4 I/O (io)
part F pins: A2 I/O,GSR (io), A3 I/O (io), A4 I/O (io), B2 I/O (io), B4 I/O (io), B5 I/O (io), C3 I/O (io), C4 I/O (io), C5 I/O (io), C6 I/O (io), D5 I/O (io), D7 I/O (io)
part G pins: U8 I/O (io), U9 I/O (io), V7 I/O (io), V8 I/O (io), V9 I/O (io), W6 I/O (io), W7 I/O (io), W8 I/O (io), W9 I/O (io), Y6 I/O (io), Y7 I/O (io), Y8 I/O (io)
part H pins: A5 I/O (io), A7 I/O (io), A8 I/O (io), A9 I/O (io), B6 I/O (io), B7 I/O (io), B8 I/O (io), B9 I/O (io), C8 I/O (io), C9 I/O (io), D8 I/O (io), D9 I/O (io)
part I pins: U11 I/O (io), U12 I/O (io), V11 I/O (io), V12 I/O (io), V13 I/O (io), W11 I/O (io), W12 I/O (io), W13 I/O (io), W14 I/O (io), Y11 I/O (io), Y12 I/O (io), Y13 I/O (io)
part J pins: A12 I/O (io), A13 I/O (io), A14 I/O (io), B10 I/O (io), B11 I/O (io), B13 I/O (io), C10 I/O (io), C11 I/O (io), C12 I/O (io), C13 I/O (io), D10 I/O (io), D12 I/O (io)
part K pins: U14 I/O (io), V14 I/O (io), V16 I/O (io), V17 I/O (io), V18 I/O (io), W15 I/O (io), W19 I/O (io), Y15 I/O (io), Y16 I/O (io), Y17 I/O (io), Y18 I/O (io), Y19 I/O (io)
part L pins: A15 I/O (io), A16 I/O (io), A17 I/O (io), A18 I/O (io), B15 I/O (io), B18 I/O (io), C14 I/O (io), C15 I/O (io), C16 I/O (io), C17 I/O (io), D14 I/O (io), D16 I/O (io)
part M pins: P17 I/O (io), P18 I/O (io), R18 I/O (io), R20 I/O (io), T17 I/O (io), T18 I/O (io), T19 I/O (io), U19 I/O (io), U20 I/O (io), V19 I/O (io), V20 I/O (io), Y20 I/O (io)
part N pins: C18 I/O (io), C20 I/O (io), D18 I/O (io), D19 I/O (io), D20 I/O (io), E18 I/O (io), E19 I/O (io), E20 I/O (io), F18 I/O (io), F19 I/O (io), G17 I/O (io), G19 I/O (io)
part O pins: L18 I/O (io), L19 I/O (io), L20 I/O (io), M17 I/O (io), M18 I/O (io), M20 I/O (io), N17 I/O (io), N18 I/O (io), N19 I/O (io), N20 I/O (io), P19 I/O (io), P20 I/O (io)
part P pins: G20 I/O (io), H17 I/O (io), H18 I/O (io), H19 I/O (io), H20 I/O (io), J17 I/O (io), J18 I/O (io), J19 I/O (io), J20 I/O (io), K17 I/O (io), K18 I/O (io), K19 I/O (io)
part Q pins: B12 TDO (out), U16 TCK (in), W16 TDI (in), W17 TMS (in)
part R pins: A10 VCCINT 3.3V (power), B3 VCCINT 3.3V (power), B14 VCCINT 3.3V (power), B17 VCCINT 3.3V (power), C7 VCCINT 3.3V (power), D4 VCCIO 2.5V/3.3 V (power), D6 VCCIO 2.5V/3.3 V (power), D11 VCCIO 2.5V/3.3 V (power), D15 VCCIO 2.5V/3.3 V (power), D17 VCCIO 2.5V/3.3 V (power), E17 VCCINT 3.3V (power), F1 VCCINT 3.3V (power), F4 VCCIO 2.5V/3.3 V (power), F17 VCCIO 2.5V/3.3 V (power), F20 VCCINT 3.3V (power), G4 VCCINT 3.3V (power), K4 VCCIO 2.5V/3.3 V (power), L17 VCCIO 2.5V/3.3 V (power), M19 VCCINT 3.3V (power), P2 VCCINT 3.3V (power), R4 VCCIO 2.5V/3.3 V (power), R17 VCCIO 2.5V/3.3 V (power), T20 VCCINT 3.3V (power), U4 VCCIO 2.5V/3.3 V (power), U6 VCCIO 2.5V/3.3 V (power), U10 VCCIO 2.5V/3.3 V (power), U13 VCCINT 3.3V (power), U15 VCCIO 2.5V/3.3 V (power), U17 VCCIO 2.5V/3.3 V (power), V10 VCCINT 3.3V (power), W5 VCCINT 3.3V (power), W18 VCCINT 3.3V (power), Y9 VCCINT 3.3V (power)
part S pins: A6 GND (power), A11 GND (power), B1 GND (power), B16 GND (power), D13 GND (power), G18 GND (power), J9 GND (power), J10 GND (power), J11 GND (power), J12 GND (power), K3 GND (power), K9 GND (power), K10 GND (power), K11 GND (power), K12 GND (power), K20 GND (power), L9 GND (power), L10 GND (power), L11 GND (power), L12 GND (power), M9 GND (power), M10 GND (power), M11 GND (power), M12 GND (power), R19 GND (power), T1 GND (power), U18 GND (power), V15 GND (power), W10 GND (power), Y5 GND (power), Y10 GND (power), Y14 GND (power)
part T pins: A1 NC, A19 NC, A20 NC, B19 NC, B20 NC, C19 NC, W1 NC, W2 NC, W3 NC, W20 NC, Y1 NC
part A text: BANK 1
part B text: BANK 2
part C text: BANK 3
part D text: BANK 4
part E text: BANK 5
part F text: BANK 6
part G text: BANK 7
part H text: BANK 8
part I text: BANK 9
part J text: BANK 10
part K text: BANK 11
part L text: BANK 12
part M text: BANK 13
part N text: BANK 14
part O text: BANK 15
part P text: BANK 16

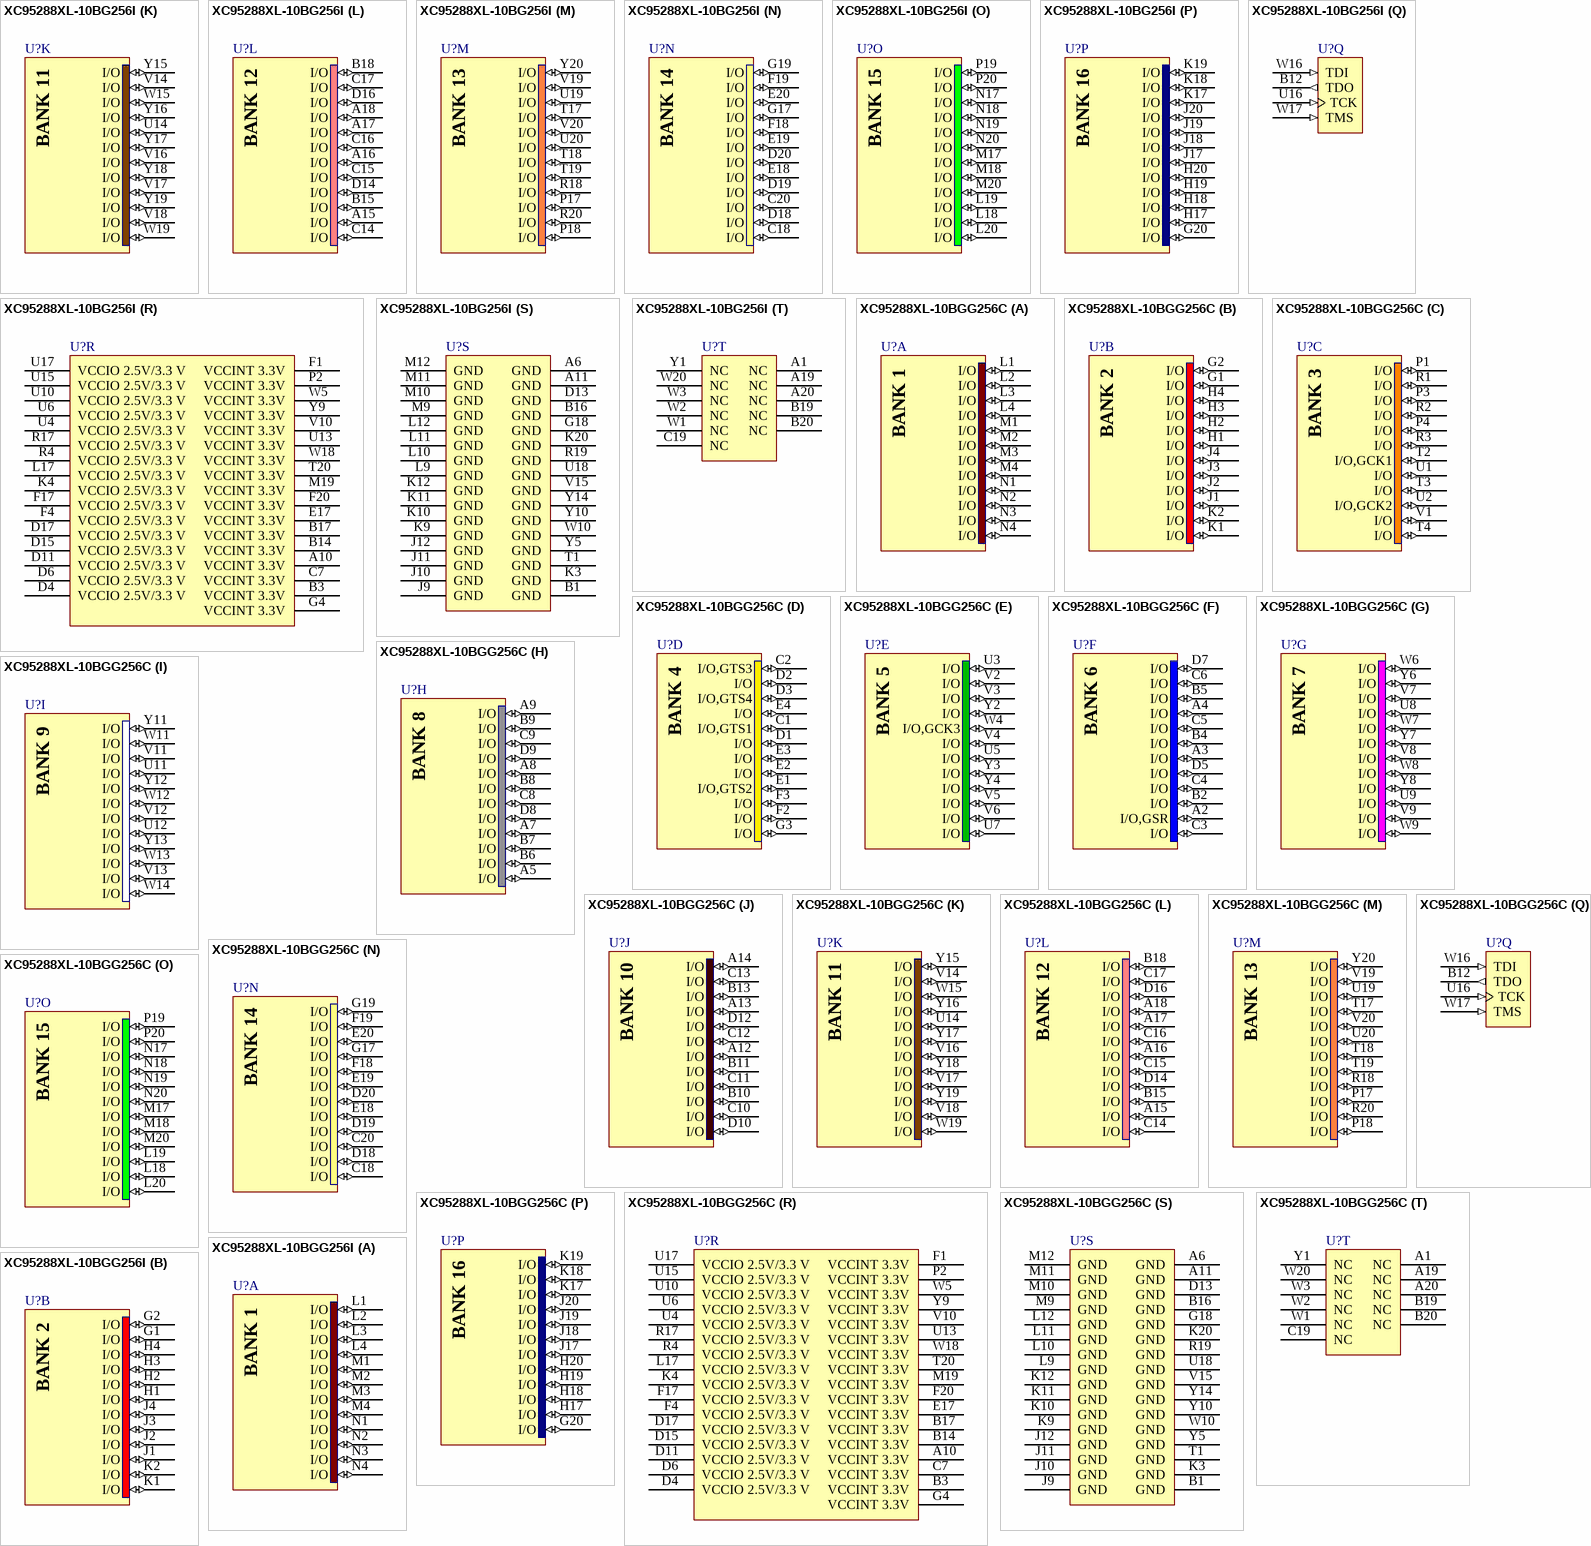
[diagram p48: symbols XC95288XL-10BG256I to XC95288XL-10BGG256I]

## XC95288XL-10BG256I
designator U?
FastFLASH XC900XL, 3.3V High-Performance 288 Macrocell CPLD, 192 User I/Os, 256-Ball BGA, Speed Grade 10, Industrial Grade; Note: BGA package contains 16 extra balls (Grounded); DatasheetVersion: ver2.1, Apr-2007; PackageVersion: ver1.2, Apr-2006; PackageReference: BG256TE; PackageDescription: 256-Ball Plastic Ball Grid Array (BG256) - Thermally Enhanced; Code_JEDEC: MS-034-BAL-2; ComponentLink1Description: Manufacturer URL; ComponentLink1URL: http://www.xilinx.com/; ComponentLink2Description: XC95288XL Datasheet; ComponentLink2URL: http://www.xilinx.com/support/documentation/data_sheets/ds055.pdf; ComponentLink3Description: BG256TE Package Drawing; ComponentLink3URL: http://www.xilinx.com/support/documentation/package_specs/bg256.pdf; ComponentLink4Description: XC9500XL Documents; ComponentLink4URL: http://www.xilinx.com/support/documentation/xc9500xl.htm
footprint BG256TE (BGA, 272-Leads, Body 27x27mm, Pitch 1.27mm)
part A pins: L1 I/O (io), L2 I/O (io), L3 I/O (io), L4 I/O (io), M1 I/O (io), M2 I/O (io), M3 I/O (io), M4 I/O (io), N1 I/O (io), N2 I/O (io), N3 I/O (io), N4 I/O (io)
part B pins: G1 I/O (io), G2 I/O (io), H1 I/O (io), H2 I/O (io), H3 I/O (io), H4 I/O (io), J1 I/O (io), J2 I/O (io), J3 I/O (io), J4 I/O (io), K1 I/O (io), K2 I/O (io)
part C pins: P1 I/O (io), P3 I/O (io), P4 I/O (io), R1 I/O (io), R2 I/O (io), R3 I/O (io), T2 I/O,GCK1 (io), T3 I/O (io), T4 I/O (io), U1 I/O (io), U2 I/O,GCK2 (io), V1 I/O (io)
part D pins: C1 I/O,GTS1 (io), C2 I/O,GTS3 (io), D1 I/O (io), D2 I/O (io), D3 I/O,GTS4 (io), E1 I/O,GTS2 (io), E2 I/O (io), E3 I/O (io), E4 I/O (io), F2 I/O (io), F3 I/O (io), G3 I/O (io)
part E pins: U3 I/O (io), U5 I/O (io), U7 I/O (io), V2 I/O (io), V3 I/O (io), V4 I/O (io), V5 I/O (io), V6 I/O (io), W4 I/O,GCK3 (io), Y2 I/O (io), Y3 I/O (io), Y4 I/O (io)
part F pins: A2 I/O,GSR (io), A3 I/O (io), A4 I/O (io), B2 I/O (io), B4 I/O (io), B5 I/O (io), C3 I/O (io), C4 I/O (io), C5 I/O (io), C6 I/O (io), D5 I/O (io), D7 I/O (io)
part G pins: U8 I/O (io), U9 I/O (io), V7 I/O (io), V8 I/O (io), V9 I/O (io), W6 I/O (io), W7 I/O (io), W8 I/O (io), W9 I/O (io), Y6 I/O (io), Y7 I/O (io), Y8 I/O (io)
part H pins: A5 I/O (io), A7 I/O (io), A8 I/O (io), A9 I/O (io), B6 I/O (io), B7 I/O (io), B8 I/O (io), B9 I/O (io), C8 I/O (io), C9 I/O (io), D8 I/O (io), D9 I/O (io)
part I pins: U11 I/O (io), U12 I/O (io), V11 I/O (io), V12 I/O (io), V13 I/O (io), W11 I/O (io), W12 I/O (io), W13 I/O (io), W14 I/O (io), Y11 I/O (io), Y12 I/O (io), Y13 I/O (io)
part J pins: A12 I/O (io), A13 I/O (io), A14 I/O (io), B10 I/O (io), B11 I/O (io), B13 I/O (io), C10 I/O (io), C11 I/O (io), C12 I/O (io), C13 I/O (io), D10 I/O (io), D12 I/O (io)
part K pins: U14 I/O (io), V14 I/O (io), V16 I/O (io), V17 I/O (io), V18 I/O (io), W15 I/O (io), W19 I/O (io), Y15 I/O (io), Y16 I/O (io), Y17 I/O (io), Y18 I/O (io), Y19 I/O (io)
part L pins: A15 I/O (io), A16 I/O (io), A17 I/O (io), A18 I/O (io), B15 I/O (io), B18 I/O (io), C14 I/O (io), C15 I/O (io), C16 I/O (io), C17 I/O (io), D14 I/O (io), D16 I/O (io)
part M pins: P17 I/O (io), P18 I/O (io), R18 I/O (io), R20 I/O (io), T17 I/O (io), T18 I/O (io), T19 I/O (io), U19 I/O (io), U20 I/O (io), V19 I/O (io), V20 I/O (io), Y20 I/O (io)
part N pins: C18 I/O (io), C20 I/O (io), D18 I/O (io), D19 I/O (io), D20 I/O (io), E18 I/O (io), E19 I/O (io), E20 I/O (io), F18 I/O (io), F19 I/O (io), G17 I/O (io), G19 I/O (io)
part O pins: L18 I/O (io), L19 I/O (io), L20 I/O (io), M17 I/O (io), M18 I/O (io), M20 I/O (io), N17 I/O (io), N18 I/O (io), N19 I/O (io), N20 I/O (io), P19 I/O (io), P20 I/O (io)
part P pins: G20 I/O (io), H17 I/O (io), H18 I/O (io), H19 I/O (io), H20 I/O (io), J17 I/O (io), J18 I/O (io), J19 I/O (io), J20 I/O (io), K17 I/O (io), K18 I/O (io), K19 I/O (io)
part Q pins: B12 TDO (out), U16 TCK (in), W16 TDI (in), W17 TMS (in)
part R pins: A10 VCCINT 3.3V (power), B3 VCCINT 3.3V (power), B14 VCCINT 3.3V (power), B17 VCCINT 3.3V (power), C7 VCCINT 3.3V (power), D4 VCCIO 2.5V/3.3 V (power), D6 VCCIO 2.5V/3.3 V (power), D11 VCCIO 2.5V/3.3 V (power), D15 VCCIO 2.5V/3.3 V (power), D17 VCCIO 2.5V/3.3 V (power), E17 VCCINT 3.3V (power), F1 VCCINT 3.3V (power), F4 VCCIO 2.5V/3.3 V (power), F17 VCCIO 2.5V/3.3 V (power), F20 VCCINT 3.3V (power), G4 VCCINT 3.3V (power), K4 VCCIO 2.5V/3.3 V (power), L17 VCCIO 2.5V/3.3 V (power), M19 VCCINT 3.3V (power), P2 VCCINT 3.3V (power), R4 VCCIO 2.5V/3.3 V (power), R17 VCCIO 2.5V/3.3 V (power), T20 VCCINT 3.3V (power), U4 VCCIO 2.5V/3.3 V (power), U6 VCCIO 2.5V/3.3 V (power), U10 VCCIO 2.5V/3.3 V (power), U13 VCCINT 3.3V (power), U15 VCCIO 2.5V/3.3 V (power), U17 VCCIO 2.5V/3.3 V (power), V10 VCCINT 3.3V (power), W5 VCCINT 3.3V (power), W18 VCCINT 3.3V (power), Y9 VCCINT 3.3V (power)
part S pins: A6 GND (power), A11 GND (power), B1 GND (power), B16 GND (power), D13 GND (power), G18 GND (power), J9 GND (power), J10 GND (power), J11 GND (power), J12 GND (power), K3 GND (power), K9 GND (power), K10 GND (power), K11 GND (power), K12 GND (power), K20 GND (power), L9 GND (power), L10 GND (power), L11 GND (power), L12 GND (power), M9 GND (power), M10 GND (power), M11 GND (power), M12 GND (power), R19 GND (power), T1 GND (power), U18 GND (power), V15 GND (power), W10 GND (power), Y5 GND (power), Y10 GND (power), Y14 GND (power)
part T pins: A1 NC, A19 NC, A20 NC, B19 NC, B20 NC, C19 NC, W1 NC, W2 NC, W3 NC, W20 NC, Y1 NC
part A text: BANK 1
part B text: BANK 2
part C text: BANK 3
part D text: BANK 4
part E text: BANK 5
part F text: BANK 6
part G text: BANK 7
part H text: BANK 8
part I text: BANK 9
part J text: BANK 10
part K text: BANK 11
part L text: BANK 12
part M text: BANK 13
part N text: BANK 14
part O text: BANK 15
part P text: BANK 16

## XC95288XL-10BGG256C
designator U?
FastFLASH XC900XL, 3.3V High-Performance 288 Macrocell CPLD, 192 User I/Os, 256-Ball BGA, Speed Grade 10, Commercial Grade, Pb-Free; Note: BGA package contains 16 extra balls (Grounded); DatasheetVersion: ver2.1, Apr-2007; PackageVersion: ver1.2, Apr-2006; PackageReference: BGG256TE; PackageDescription: 256-Ball Plastic Ball Grid Array (BGG256) - Thermally Enhanced - Pb-Free; Code_JEDEC: MS-034-BAL-2; ComponentLink1Description: Manufacturer URL; ComponentLink1URL: http://www.xilinx.com/; ComponentLink2Description: XC95288XL Datasheet; ComponentLink2URL: http://www.xilinx.com/support/documentation/data_sheets/ds055.pdf; ComponentLink3Description: BGG256TE Package Drawing; ComponentLink3URL: http://www.xilinx.com/support/documentation/package_specs/bg256.pdf; ComponentLink4Description: XC9500XL Documents; ComponentLink4URL: http://www.xilinx.com/support/documentation/xc9500xl.htm
footprint BGG256TE (BGA, 272-Leads, Body 27x27mm, Pitch 1.27mm)
part A pins: L1 I/O (io), L2 I/O (io), L3 I/O (io), L4 I/O (io), M1 I/O (io), M2 I/O (io), M3 I/O (io), M4 I/O (io), N1 I/O (io), N2 I/O (io), N3 I/O (io), N4 I/O (io)
part B pins: G1 I/O (io), G2 I/O (io), H1 I/O (io), H2 I/O (io), H3 I/O (io), H4 I/O (io), J1 I/O (io), J2 I/O (io), J3 I/O (io), J4 I/O (io), K1 I/O (io), K2 I/O (io)
part C pins: P1 I/O (io), P3 I/O (io), P4 I/O (io), R1 I/O (io), R2 I/O (io), R3 I/O (io), T2 I/O,GCK1 (io), T3 I/O (io), T4 I/O (io), U1 I/O (io), U2 I/O,GCK2 (io), V1 I/O (io)
part D pins: C1 I/O,GTS1 (io), C2 I/O,GTS3 (io), D1 I/O (io), D2 I/O (io), D3 I/O,GTS4 (io), E1 I/O,GTS2 (io), E2 I/O (io), E3 I/O (io), E4 I/O (io), F2 I/O (io), F3 I/O (io), G3 I/O (io)
part E pins: U3 I/O (io), U5 I/O (io), U7 I/O (io), V2 I/O (io), V3 I/O (io), V4 I/O (io), V5 I/O (io), V6 I/O (io), W4 I/O,GCK3 (io), Y2 I/O (io), Y3 I/O (io), Y4 I/O (io)
part F pins: A2 I/O,GSR (io), A3 I/O (io), A4 I/O (io), B2 I/O (io), B4 I/O (io), B5 I/O (io), C3 I/O (io), C4 I/O (io), C5 I/O (io), C6 I/O (io), D5 I/O (io), D7 I/O (io)
part G pins: U8 I/O (io), U9 I/O (io), V7 I/O (io), V8 I/O (io), V9 I/O (io), W6 I/O (io), W7 I/O (io), W8 I/O (io), W9 I/O (io), Y6 I/O (io), Y7 I/O (io), Y8 I/O (io)
part H pins: A5 I/O (io), A7 I/O (io), A8 I/O (io), A9 I/O (io), B6 I/O (io), B7 I/O (io), B8 I/O (io), B9 I/O (io), C8 I/O (io), C9 I/O (io), D8 I/O (io), D9 I/O (io)
part I pins: U11 I/O (io), U12 I/O (io), V11 I/O (io), V12 I/O (io), V13 I/O (io), W11 I/O (io), W12 I/O (io), W13 I/O (io), W14 I/O (io), Y11 I/O (io), Y12 I/O (io), Y13 I/O (io)
part J pins: A12 I/O (io), A13 I/O (io), A14 I/O (io), B10 I/O (io), B11 I/O (io), B13 I/O (io), C10 I/O (io), C11 I/O (io), C12 I/O (io), C13 I/O (io), D10 I/O (io), D12 I/O (io)
part K pins: U14 I/O (io), V14 I/O (io), V16 I/O (io), V17 I/O (io), V18 I/O (io), W15 I/O (io), W19 I/O (io), Y15 I/O (io), Y16 I/O (io), Y17 I/O (io), Y18 I/O (io), Y19 I/O (io)
part L pins: A15 I/O (io), A16 I/O (io), A17 I/O (io), A18 I/O (io), B15 I/O (io), B18 I/O (io), C14 I/O (io), C15 I/O (io), C16 I/O (io), C17 I/O (io), D14 I/O (io), D16 I/O (io)
part M pins: P17 I/O (io), P18 I/O (io), R18 I/O (io), R20 I/O (io), T17 I/O (io), T18 I/O (io), T19 I/O (io), U19 I/O (io), U20 I/O (io), V19 I/O (io), V20 I/O (io), Y20 I/O (io)
part N pins: C18 I/O (io), C20 I/O (io), D18 I/O (io), D19 I/O (io), D20 I/O (io), E18 I/O (io), E19 I/O (io), E20 I/O (io), F18 I/O (io), F19 I/O (io), G17 I/O (io), G19 I/O (io)
part O pins: L18 I/O (io), L19 I/O (io), L20 I/O (io), M17 I/O (io), M18 I/O (io), M20 I/O (io), N17 I/O (io), N18 I/O (io), N19 I/O (io), N20 I/O (io), P19 I/O (io), P20 I/O (io)
part P pins: G20 I/O (io), H17 I/O (io), H18 I/O (io), H19 I/O (io), H20 I/O (io), J17 I/O (io), J18 I/O (io), J19 I/O (io), J20 I/O (io), K17 I/O (io), K18 I/O (io), K19 I/O (io)
part Q pins: B12 TDO (out), U16 TCK (in), W16 TDI (in), W17 TMS (in)
part R pins: A10 VCCINT 3.3V (power), B3 VCCINT 3.3V (power), B14 VCCINT 3.3V (power), B17 VCCINT 3.3V (power), C7 VCCINT 3.3V (power), D4 VCCIO 2.5V/3.3 V (power), D6 VCCIO 2.5V/3.3 V (power), D11 VCCIO 2.5V/3.3 V (power), D15 VCCIO 2.5V/3.3 V (power), D17 VCCIO 2.5V/3.3 V (power), E17 VCCINT 3.3V (power), F1 VCCINT 3.3V (power), F4 VCCIO 2.5V/3.3 V (power), F17 VCCIO 2.5V/3.3 V (power), F20 VCCINT 3.3V (power), G4 VCCINT 3.3V (power), K4 VCCIO 2.5V/3.3 V (power), L17 VCCIO 2.5V/3.3 V (power), M19 VCCINT 3.3V (power), P2 VCCINT 3.3V (power), R4 VCCIO 2.5V/3.3 V (power), R17 VCCIO 2.5V/3.3 V (power), T20 VCCINT 3.3V (power), U4 VCCIO 2.5V/3.3 V (power), U6 VCCIO 2.5V/3.3 V (power), U10 VCCIO 2.5V/3.3 V (power), U13 VCCINT 3.3V (power), U15 VCCIO 2.5V/3.3 V (power), U17 VCCIO 2.5V/3.3 V (power), V10 VCCINT 3.3V (power), W5 VCCINT 3.3V (power), W18 VCCINT 3.3V (power), Y9 VCCINT 3.3V (power)
part S pins: A6 GND (power), A11 GND (power), B1 GND (power), B16 GND (power), D13 GND (power), G18 GND (power), J9 GND (power), J10 GND (power), J11 GND (power), J12 GND (power), K3 GND (power), K9 GND (power), K10 GND (power), K11 GND (power), K12 GND (power), K20 GND (power), L9 GND (power), L10 GND (power), L11 GND (power), L12 GND (power), M9 GND (power), M10 GND (power), M11 GND (power), M12 GND (power), R19 GND (power), T1 GND (power), U18 GND (power), V15 GND (power), W10 GND (power), Y5 GND (power), Y10 GND (power), Y14 GND (power)
part T pins: A1 NC, A19 NC, A20 NC, B19 NC, B20 NC, C19 NC, W1 NC, W2 NC, W3 NC, W20 NC, Y1 NC
part A text: BANK 1
part B text: BANK 2
part C text: BANK 3
part D text: BANK 4
part E text: BANK 5
part F text: BANK 6
part G text: BANK 7
part H text: BANK 8
part I text: BANK 9
part J text: BANK 10
part K text: BANK 11
part L text: BANK 12
part M text: BANK 13
part N text: BANK 14
part O text: BANK 15
part P text: BANK 16

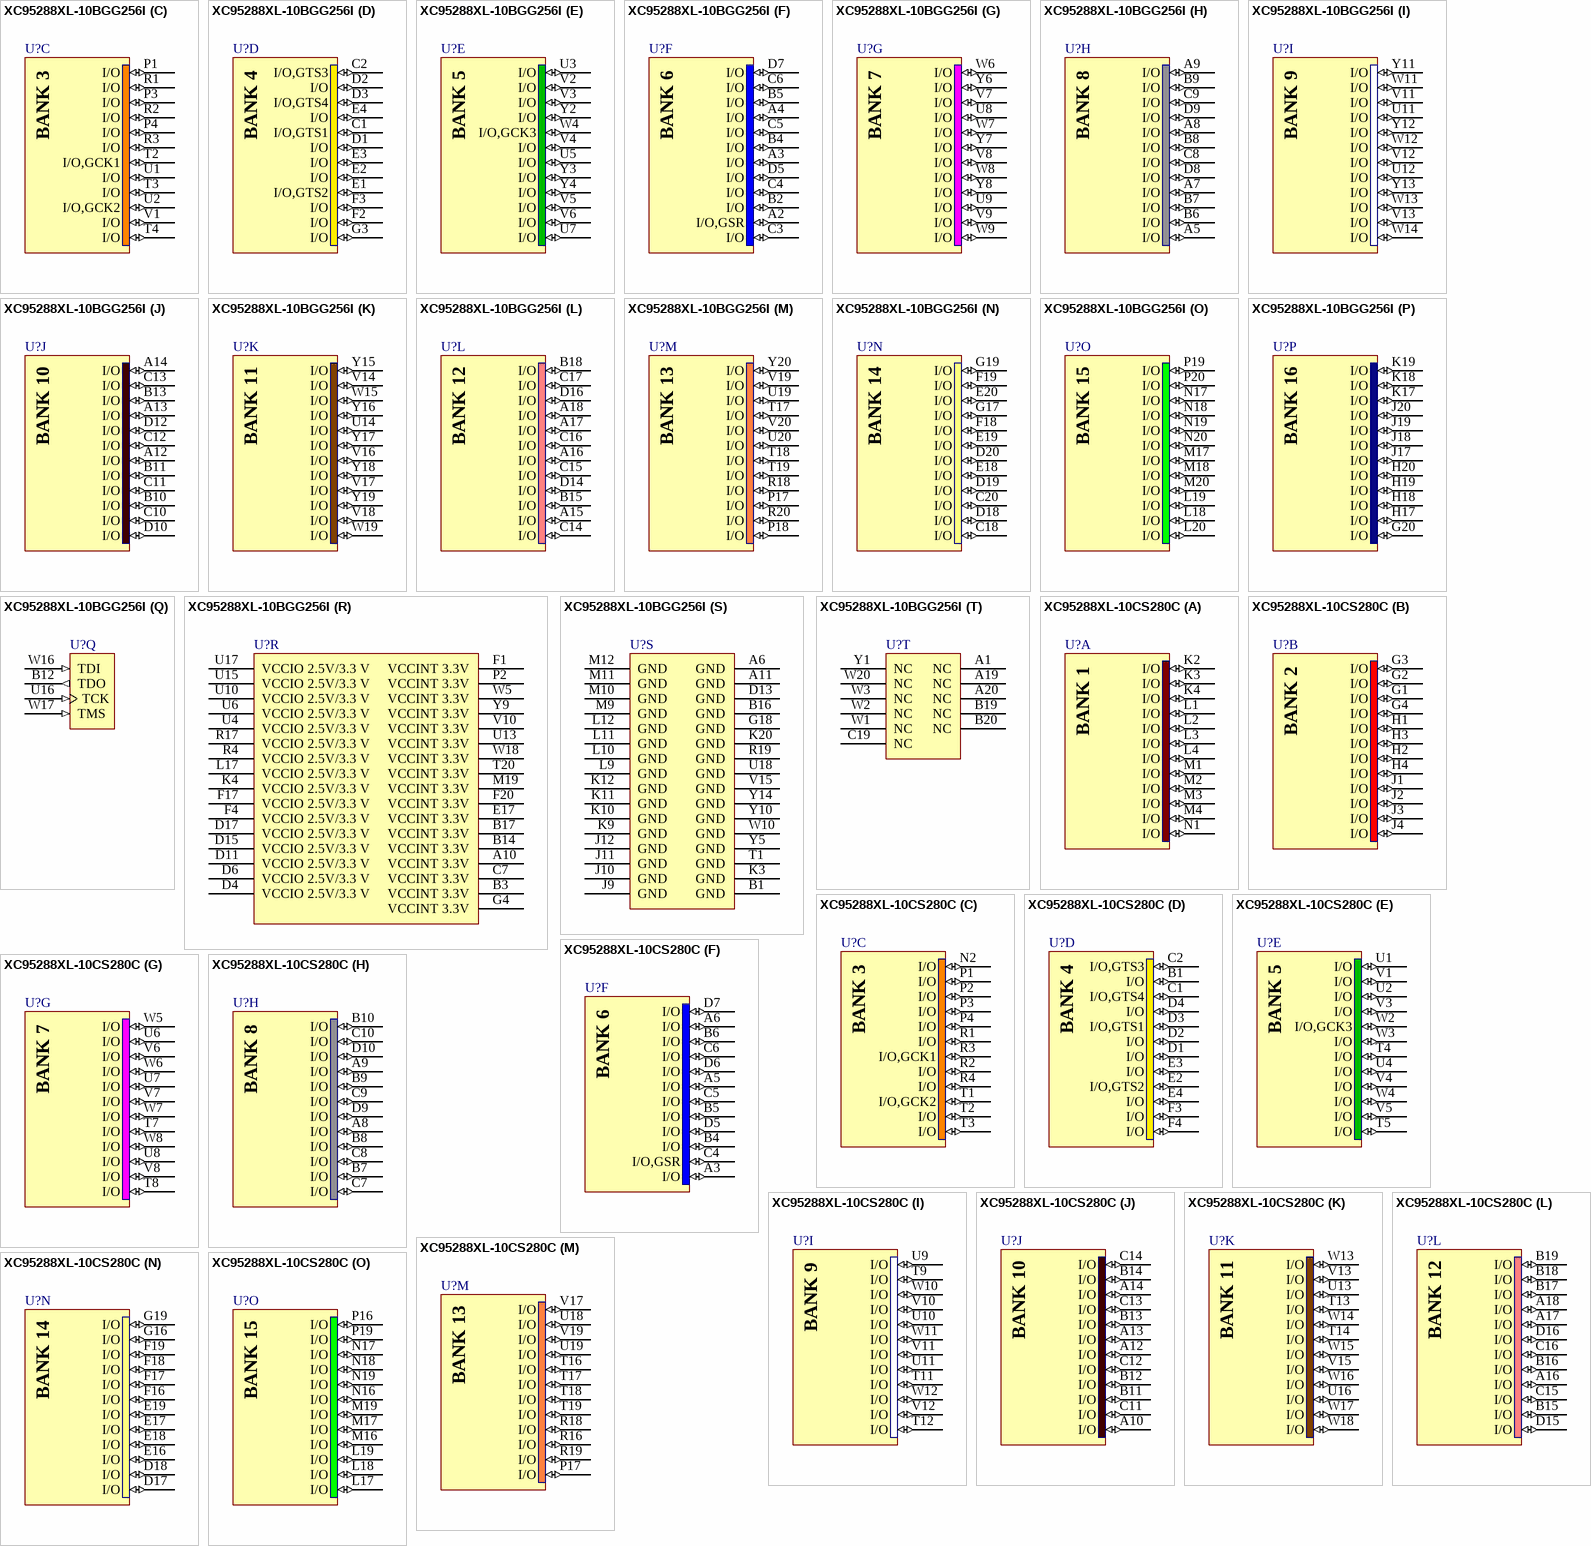
[diagram p49: symbols XC95288XL-10BGG256I to XC95288XL-10CS280C]

## XC95288XL-10BGG256I
designator U?
FastFLASH XC900XL, 3.3V High-Performance 288 Macrocell CPLD, 192 User I/Os, 256-Ball BGA, Speed Grade 10, Industrial Grade, Pb-Free; Note: BGA package contains 16 extra balls (Grounded); DatasheetVersion: ver2.1, Apr-2007; PackageVersion: ver1.2, Apr-2006; PackageReference: BGG256TE; PackageDescription: 256-Ball Plastic Ball Grid Array (BGG256) - Thermally Enhanced - Pb-Free; Code_JEDEC: MS-034-BAL-2; ComponentLink1Description: Manufacturer URL; ComponentLink1URL: http://www.xilinx.com/; ComponentLink2Description: XC95288XL Datasheet; ComponentLink2URL: http://www.xilinx.com/support/documentation/data_sheets/ds055.pdf; ComponentLink3Description: BGG256TE Package Drawing; ComponentLink3URL: http://www.xilinx.com/support/documentation/package_specs/bg256.pdf; ComponentLink4Description: XC9500XL Documents; ComponentLink4URL: http://www.xilinx.com/support/documentation/xc9500xl.htm
footprint BGG256TE (BGA, 272-Leads, Body 27x27mm, Pitch 1.27mm)
part A pins: L1 I/O (io), L2 I/O (io), L3 I/O (io), L4 I/O (io), M1 I/O (io), M2 I/O (io), M3 I/O (io), M4 I/O (io), N1 I/O (io), N2 I/O (io), N3 I/O (io), N4 I/O (io)
part B pins: G1 I/O (io), G2 I/O (io), H1 I/O (io), H2 I/O (io), H3 I/O (io), H4 I/O (io), J1 I/O (io), J2 I/O (io), J3 I/O (io), J4 I/O (io), K1 I/O (io), K2 I/O (io)
part C pins: P1 I/O (io), P3 I/O (io), P4 I/O (io), R1 I/O (io), R2 I/O (io), R3 I/O (io), T2 I/O,GCK1 (io), T3 I/O (io), T4 I/O (io), U1 I/O (io), U2 I/O,GCK2 (io), V1 I/O (io)
part D pins: C1 I/O,GTS1 (io), C2 I/O,GTS3 (io), D1 I/O (io), D2 I/O (io), D3 I/O,GTS4 (io), E1 I/O,GTS2 (io), E2 I/O (io), E3 I/O (io), E4 I/O (io), F2 I/O (io), F3 I/O (io), G3 I/O (io)
part E pins: U3 I/O (io), U5 I/O (io), U7 I/O (io), V2 I/O (io), V3 I/O (io), V4 I/O (io), V5 I/O (io), V6 I/O (io), W4 I/O,GCK3 (io), Y2 I/O (io), Y3 I/O (io), Y4 I/O (io)
part F pins: A2 I/O,GSR (io), A3 I/O (io), A4 I/O (io), B2 I/O (io), B4 I/O (io), B5 I/O (io), C3 I/O (io), C4 I/O (io), C5 I/O (io), C6 I/O (io), D5 I/O (io), D7 I/O (io)
part G pins: U8 I/O (io), U9 I/O (io), V7 I/O (io), V8 I/O (io), V9 I/O (io), W6 I/O (io), W7 I/O (io), W8 I/O (io), W9 I/O (io), Y6 I/O (io), Y7 I/O (io), Y8 I/O (io)
part H pins: A5 I/O (io), A7 I/O (io), A8 I/O (io), A9 I/O (io), B6 I/O (io), B7 I/O (io), B8 I/O (io), B9 I/O (io), C8 I/O (io), C9 I/O (io), D8 I/O (io), D9 I/O (io)
part I pins: U11 I/O (io), U12 I/O (io), V11 I/O (io), V12 I/O (io), V13 I/O (io), W11 I/O (io), W12 I/O (io), W13 I/O (io), W14 I/O (io), Y11 I/O (io), Y12 I/O (io), Y13 I/O (io)
part J pins: A12 I/O (io), A13 I/O (io), A14 I/O (io), B10 I/O (io), B11 I/O (io), B13 I/O (io), C10 I/O (io), C11 I/O (io), C12 I/O (io), C13 I/O (io), D10 I/O (io), D12 I/O (io)
part K pins: U14 I/O (io), V14 I/O (io), V16 I/O (io), V17 I/O (io), V18 I/O (io), W15 I/O (io), W19 I/O (io), Y15 I/O (io), Y16 I/O (io), Y17 I/O (io), Y18 I/O (io), Y19 I/O (io)
part L pins: A15 I/O (io), A16 I/O (io), A17 I/O (io), A18 I/O (io), B15 I/O (io), B18 I/O (io), C14 I/O (io), C15 I/O (io), C16 I/O (io), C17 I/O (io), D14 I/O (io), D16 I/O (io)
part M pins: P17 I/O (io), P18 I/O (io), R18 I/O (io), R20 I/O (io), T17 I/O (io), T18 I/O (io), T19 I/O (io), U19 I/O (io), U20 I/O (io), V19 I/O (io), V20 I/O (io), Y20 I/O (io)
part N pins: C18 I/O (io), C20 I/O (io), D18 I/O (io), D19 I/O (io), D20 I/O (io), E18 I/O (io), E19 I/O (io), E20 I/O (io), F18 I/O (io), F19 I/O (io), G17 I/O (io), G19 I/O (io)
part O pins: L18 I/O (io), L19 I/O (io), L20 I/O (io), M17 I/O (io), M18 I/O (io), M20 I/O (io), N17 I/O (io), N18 I/O (io), N19 I/O (io), N20 I/O (io), P19 I/O (io), P20 I/O (io)
part P pins: G20 I/O (io), H17 I/O (io), H18 I/O (io), H19 I/O (io), H20 I/O (io), J17 I/O (io), J18 I/O (io), J19 I/O (io), J20 I/O (io), K17 I/O (io), K18 I/O (io), K19 I/O (io)
part Q pins: B12 TDO (out), U16 TCK (in), W16 TDI (in), W17 TMS (in)
part R pins: A10 VCCINT 3.3V (power), B3 VCCINT 3.3V (power), B14 VCCINT 3.3V (power), B17 VCCINT 3.3V (power), C7 VCCINT 3.3V (power), D4 VCCIO 2.5V/3.3 V (power), D6 VCCIO 2.5V/3.3 V (power), D11 VCCIO 2.5V/3.3 V (power), D15 VCCIO 2.5V/3.3 V (power), D17 VCCIO 2.5V/3.3 V (power), E17 VCCINT 3.3V (power), F1 VCCINT 3.3V (power), F4 VCCIO 2.5V/3.3 V (power), F17 VCCIO 2.5V/3.3 V (power), F20 VCCINT 3.3V (power), G4 VCCINT 3.3V (power), K4 VCCIO 2.5V/3.3 V (power), L17 VCCIO 2.5V/3.3 V (power), M19 VCCINT 3.3V (power), P2 VCCINT 3.3V (power), R4 VCCIO 2.5V/3.3 V (power), R17 VCCIO 2.5V/3.3 V (power), T20 VCCINT 3.3V (power), U4 VCCIO 2.5V/3.3 V (power), U6 VCCIO 2.5V/3.3 V (power), U10 VCCIO 2.5V/3.3 V (power), U13 VCCINT 3.3V (power), U15 VCCIO 2.5V/3.3 V (power), U17 VCCIO 2.5V/3.3 V (power), V10 VCCINT 3.3V (power), W5 VCCINT 3.3V (power), W18 VCCINT 3.3V (power), Y9 VCCINT 3.3V (power)
part S pins: A6 GND (power), A11 GND (power), B1 GND (power), B16 GND (power), D13 GND (power), G18 GND (power), J9 GND (power), J10 GND (power), J11 GND (power), J12 GND (power), K3 GND (power), K9 GND (power), K10 GND (power), K11 GND (power), K12 GND (power), K20 GND (power), L9 GND (power), L10 GND (power), L11 GND (power), L12 GND (power), M9 GND (power), M10 GND (power), M11 GND (power), M12 GND (power), R19 GND (power), T1 GND (power), U18 GND (power), V15 GND (power), W10 GND (power), Y5 GND (power), Y10 GND (power), Y14 GND (power)
part T pins: A1 NC, A19 NC, A20 NC, B19 NC, B20 NC, C19 NC, W1 NC, W2 NC, W3 NC, W20 NC, Y1 NC
part A text: BANK 1
part B text: BANK 2
part C text: BANK 3
part D text: BANK 4
part E text: BANK 5
part F text: BANK 6
part G text: BANK 7
part H text: BANK 8
part I text: BANK 9
part J text: BANK 10
part K text: BANK 11
part L text: BANK 12
part M text: BANK 13
part N text: BANK 14
part O text: BANK 15
part P text: BANK 16

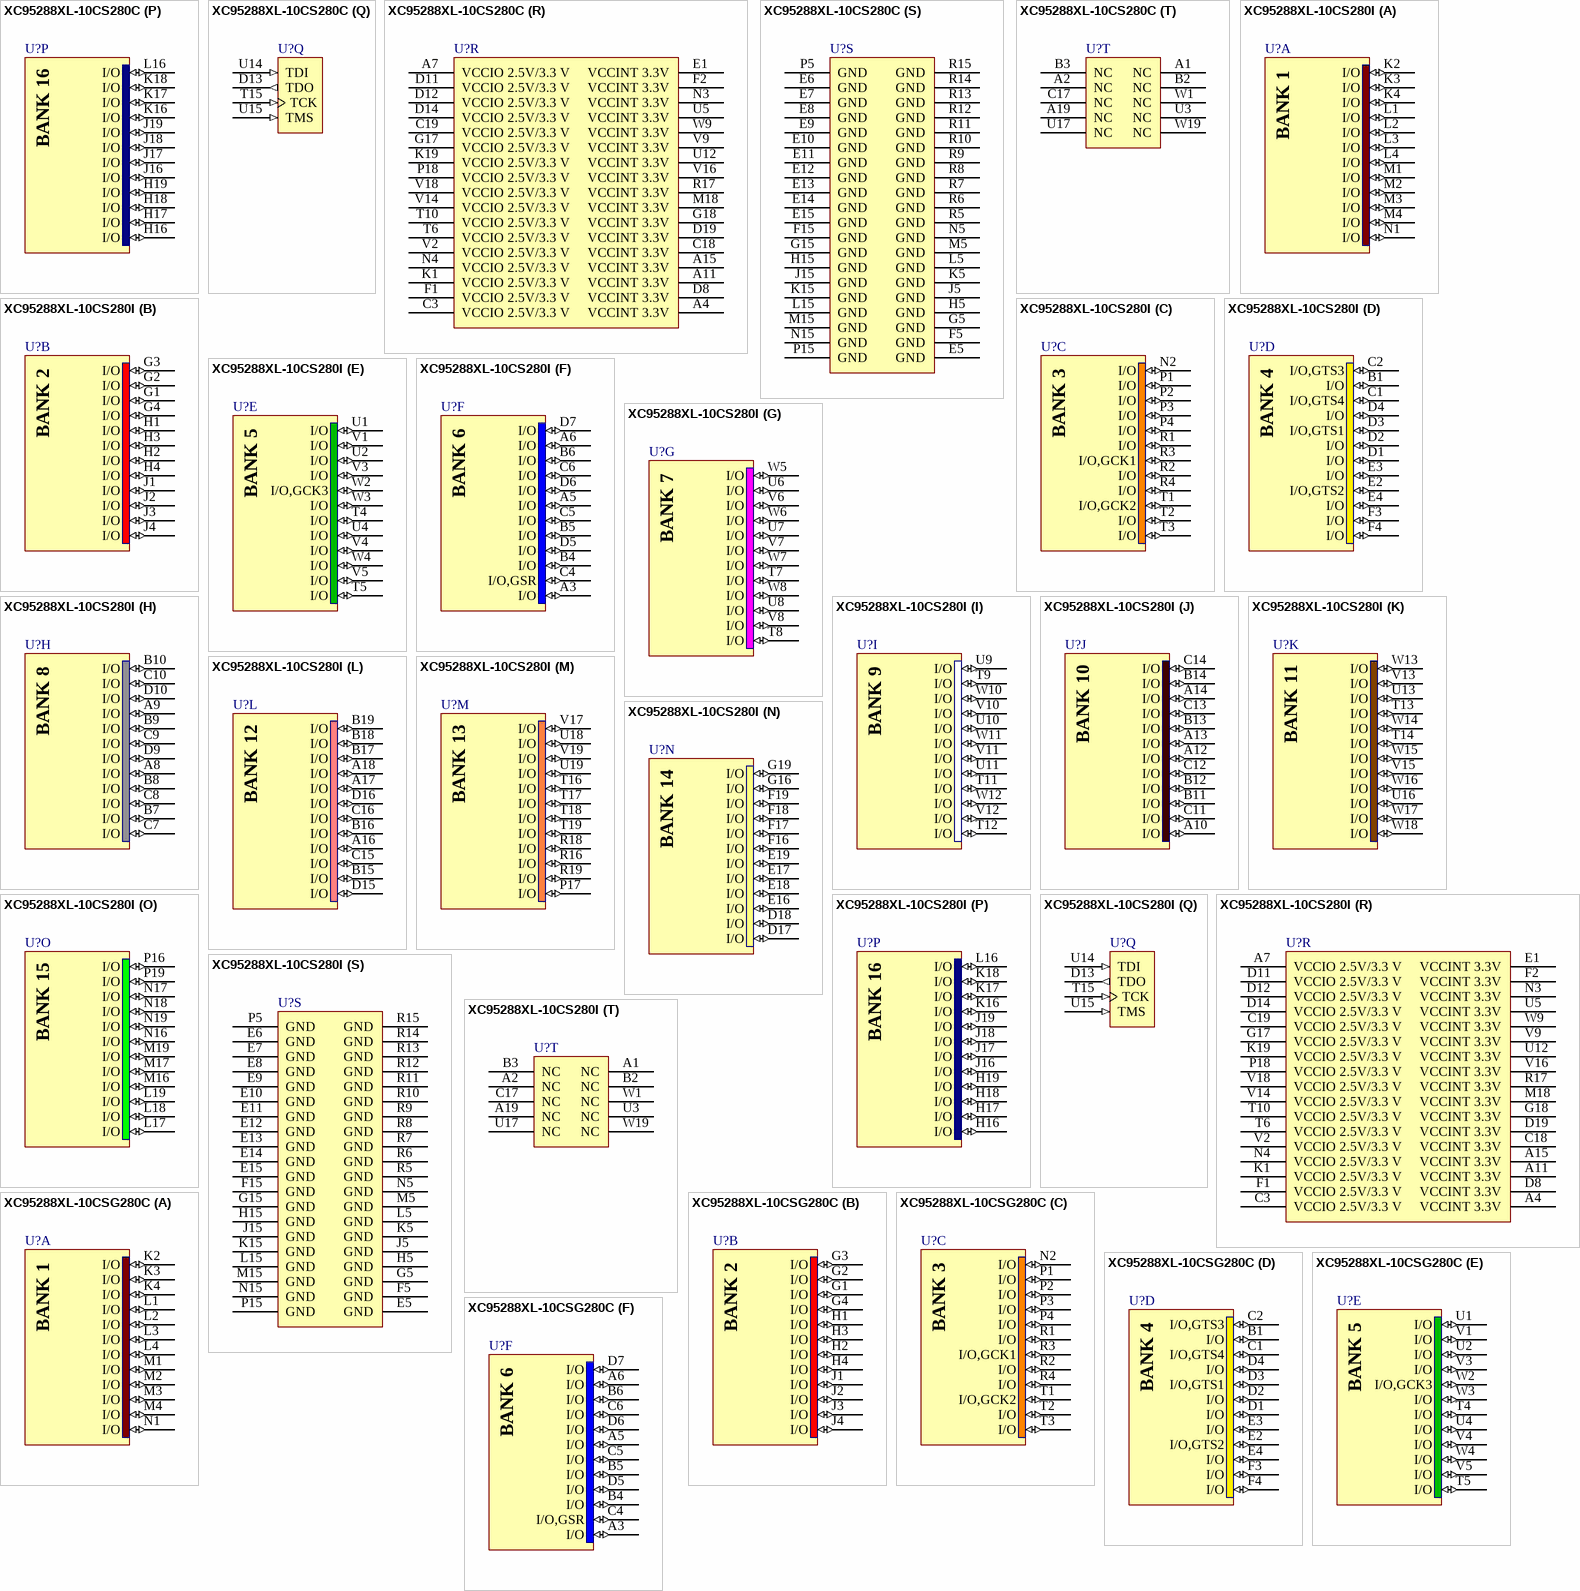
[diagram p50: symbols XC95288XL-10CS280C to XC95288XL-10CSG280C]